# Altium schematic symbol library OOLITEV8_0_2-DEV-V1_1_17_Library.SchLib: 269 symbols (part 1 of 12)
Pins are listed as number, name and electrical type; pins without a type are passive.

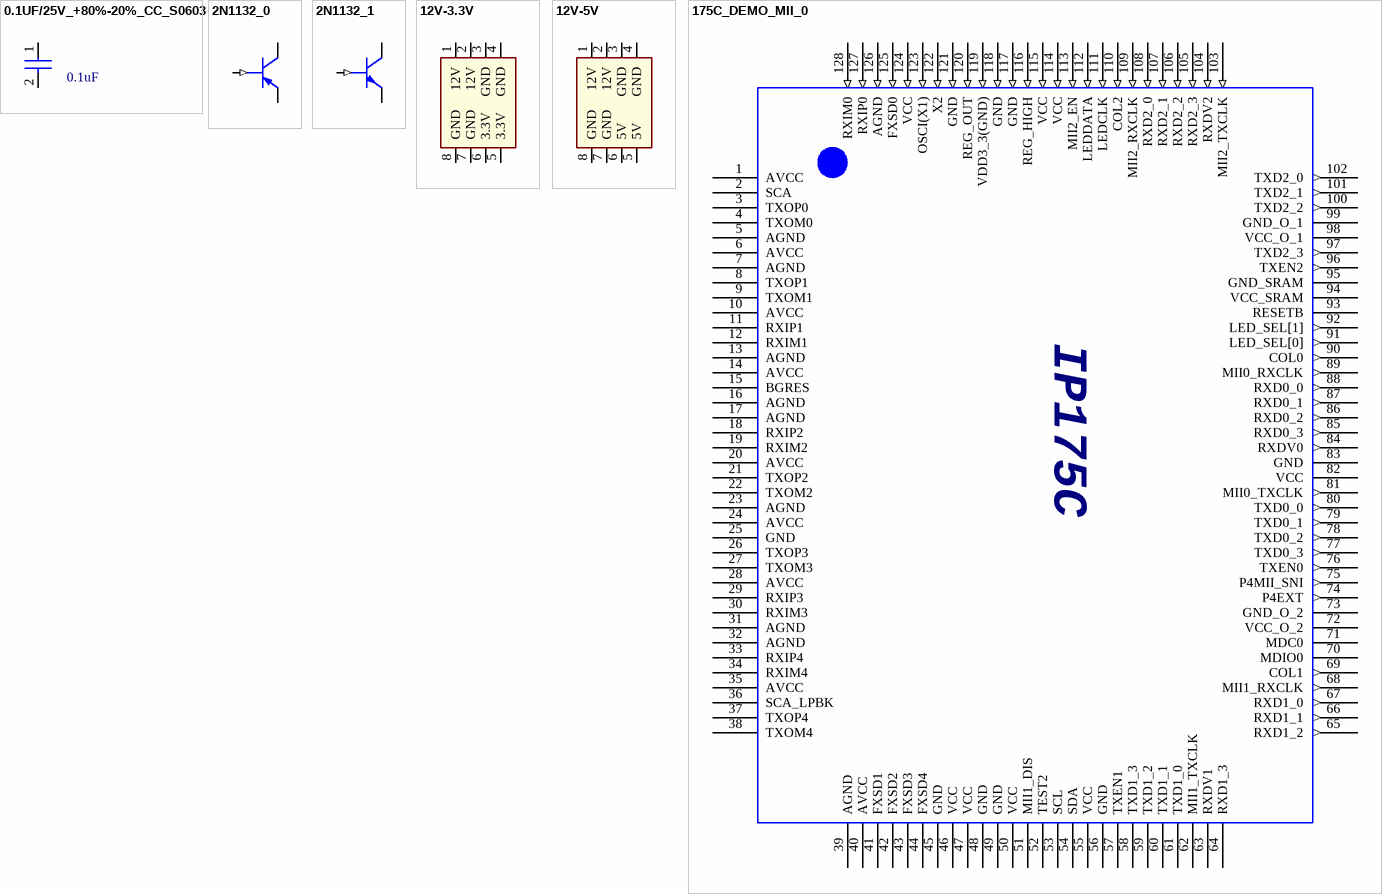
[diagram p0: symbols 0.1UF/25V_+80%-20%_CC_S0603 to 175C_DEMO_MII_0]

## 0.1UF/25V_+80%-20%_CC_S0603
designator C?, comment 0.1uF
PCB Footprint: C0603; V1: 25V +80% -20%; P/N: 26-400-311104; Package: C0603
footprint C0603
pins: 1, 2

## 2N1132_0
designator Q?
pins: 1 BASE (in), 2 EMITTER, 3 COLLECTOR

## 2N1132_1
designator Q?
pins: 1 BASE (in), 2 EMITTER, 3 COLLECTOR

## 12V-3.3V
designator U?
pins: 1 12V, 2 12V, 3 GND, 4 GND, 5 3.3V, 6 3.3V, 7 GND, 8 GND

## 12V-5V
designator U?
pins: 1 12V, 2 12V, 3 GND, 4 GND, 5 5V, 6 5V, 7 GND, 8 GND

## 175C_DEMO_MII_0
designator U?, comment 175C MII DEMO  (value not drawn)
pins: 1 AVCC, 2 SCA, 3 TXOP0, 4 TXOM0, 5 AGND, 6 AVCC, 7 AGND, 8 TXOP1, 9 TXOM1, 10 AVCC, 11 RXIP1, 12 RXIM1, 13 AGND, 14 AVCC, 15 BGRES, 16 AGND, 17 AGND, 18 RXIP2, 19 RXIM2, 20 AVCC, 21 TXOP2, 22 TXOM2, 23 AGND, 24 AVCC, 25 GND, 26 TXOP3, 27 TXOM3, 28 AVCC, 29 RXIP3, 30 RXIM3, 31 AGND, 32 AGND, 33 RXIP4, 34 RXIM4, 35 AVCC, 36 SCA_LPBK, 37 TXOP4, 38 TXOM4, 39 AGND, 40 AVCC, 41 FXSD1, 42 FXSD2, 43 FXSD3, 44 FXSD4, 45 GND, 46 VCC, 47 VCC, 48 GND, 49 GND, 50 VCC, 51 MII1_DIS, 52 TEST2, 53 SCL, 54 SDA, 55 VCC, 56 GND, 57 TXEN1, 58 TXD1_3, 59 TXD1_2, 60 TXD1_1, 61 TXD1_0, 62 MII1_TXCLK, 63 RXDV1, 64 RXD1_3, 65 RXD1_2 (out), 66 RXD1_1 (out), 67 RXD1_0 (out), 68 MII1_RXCLK (out), 69 COL1 (out), 70 MDIO0, 71 MDC0, 72 VCC_O_2 (power), 73 GND_O_2, 74 P4EXT (out), 75 P4MII_SNI (out), 76 TXEN0 (out), 77 TXD0_3 (out), 78 TXD0_2 (out), 79 TXD0_1 (out), 80 TXD0_0 (out), 81 MII0_TXCLK (out), 82 VCC, 83 GND (power), 84 RXDV0 (out), 85 RXD0_3 (out), 86 RXD0_2 (out), 87 RXD0_1 (out), 88 RXD0_0 (out), 89 MII0_RXCLK (out), 90 COL0 (out), 91 LED_SEL[0] (out), 92 LED_SEL[1] (out), 93 RESETB, 94 VCC_SRAM, 95 GND_SRAM, 96 TXEN2 (out), 97 TXD2_3 (out), 98 VCC_O_1 (power), 99 GND_O_1, 100 TXD2_2 (out), 101 TXD2_1 (out), 102 TXD2_0 (out), 103 MII2_TXCLK (in), 104 RXDV2 (in), 105 RXD2_3 (in), 106 RXD2_2 (in), 107 RXD2_1 (in), 108 RXD2_0 (in), 109 MII2_RXCLK (in), 110 COL2 (in), 111 LEDCLK (in), 112 LEDDATA (in), 113 MII2_EN (in), 114 VCC (in), 115 VCC (in), 116 REG_HIGH (in), 117 GND (in), 118 GND (in), 119 VDD3_3(GND) (in), 120 REG_OUT (in), 121 GND (in), 122 X2 (in), 123 OSCI(X1) (in), 124 VCC (in), 125 FXSD0 (in), 126 AGND (in), 127 RXIP0 (in), 128 RXIM0 (in)
text: IP175C

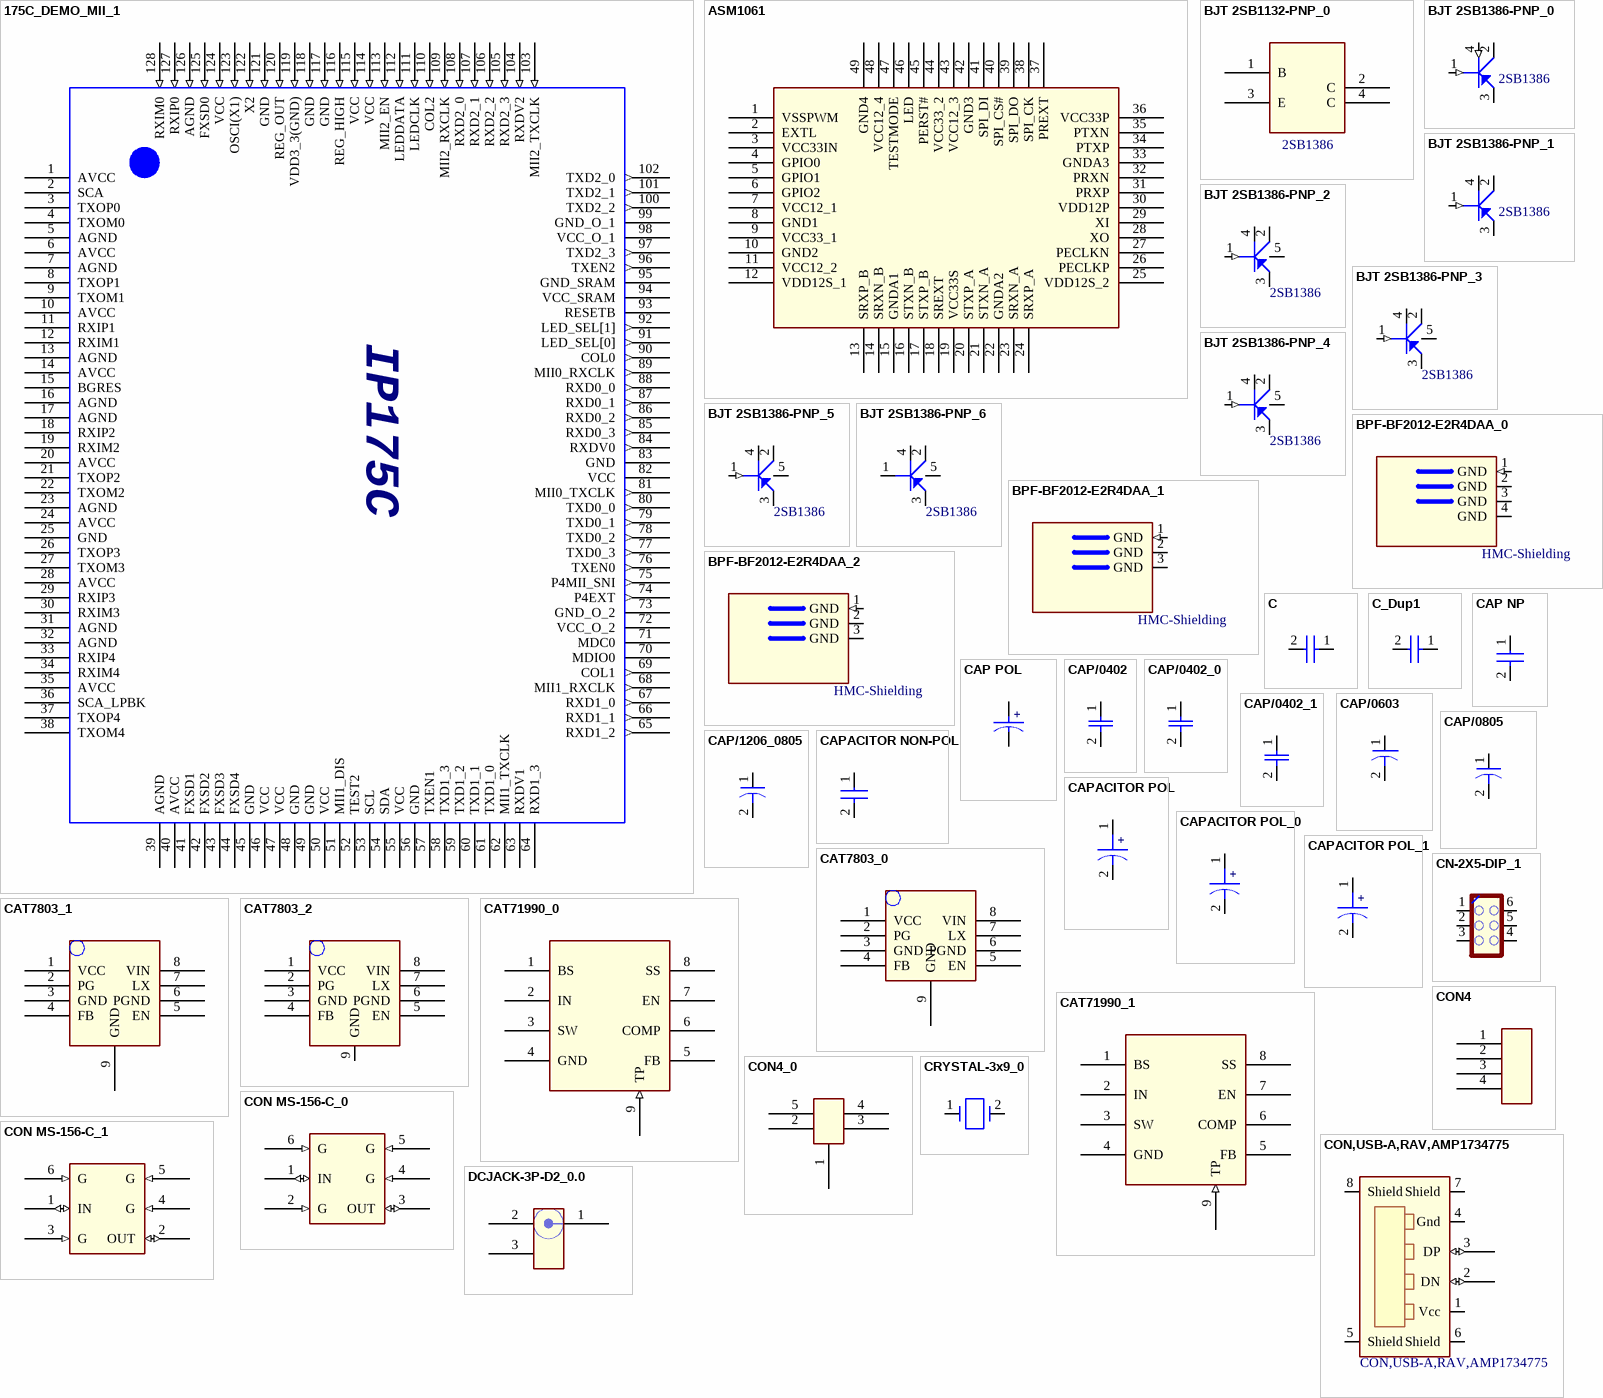
[diagram p1: symbols 175C_DEMO_MII_1 to DCJACK-3P-D2_0.0]

## 175C_DEMO_MII_1
designator U?, comment 175C MII DEMO  (value not drawn)
pins: 1 AVCC, 2 SCA, 3 TXOP0, 4 TXOM0, 5 AGND, 6 AVCC, 7 AGND, 8 TXOP1, 9 TXOM1, 10 AVCC, 11 RXIP1, 12 RXIM1, 13 AGND, 14 AVCC, 15 BGRES, 16 AGND, 17 AGND, 18 RXIP2, 19 RXIM2, 20 AVCC, 21 TXOP2, 22 TXOM2, 23 AGND, 24 AVCC, 25 GND, 26 TXOP3, 27 TXOM3, 28 AVCC, 29 RXIP3, 30 RXIM3, 31 AGND, 32 AGND, 33 RXIP4, 34 RXIM4, 35 AVCC, 36 SCA_LPBK, 37 TXOP4, 38 TXOM4, 39 AGND, 40 AVCC, 41 FXSD1, 42 FXSD2, 43 FXSD3, 44 FXSD4, 45 GND, 46 VCC, 47 VCC, 48 GND, 49 GND, 50 VCC, 51 MII1_DIS, 52 TEST2, 53 SCL, 54 SDA, 55 VCC, 56 GND, 57 TXEN1, 58 TXD1_3, 59 TXD1_2, 60 TXD1_1, 61 TXD1_0, 62 MII1_TXCLK, 63 RXDV1, 64 RXD1_3, 65 RXD1_2 (out), 66 RXD1_1 (out), 67 RXD1_0 (out), 68 MII1_RXCLK (out), 69 COL1 (out), 70 MDIO0, 71 MDC0, 72 VCC_O_2 (power), 73 GND_O_2, 74 P4EXT (out), 75 P4MII_SNI (out), 76 TXEN0 (out), 77 TXD0_3 (out), 78 TXD0_2 (out), 79 TXD0_1 (out), 80 TXD0_0 (out), 81 MII0_TXCLK (out), 82 VCC, 83 GND (power), 84 RXDV0 (out), 85 RXD0_3 (out), 86 RXD0_2 (out), 87 RXD0_1 (out), 88 RXD0_0 (out), 89 MII0_RXCLK (out), 90 COL0 (out), 91 LED_SEL[0] (out), 92 LED_SEL[1] (out), 93 RESETB, 94 VCC_SRAM, 95 GND_SRAM, 96 TXEN2 (out), 97 TXD2_3 (out), 98 VCC_O_1 (power), 99 GND_O_1, 100 TXD2_2 (out), 101 TXD2_1 (out), 102 TXD2_0 (out), 103 MII2_TXCLK (in), 104 RXDV2 (in), 105 RXD2_3 (in), 106 RXD2_2 (in), 107 RXD2_1 (in), 108 RXD2_0 (in), 109 MII2_RXCLK (in), 110 COL2 (in), 111 LEDCLK (in), 112 LEDDATA (in), 113 MII2_EN (in), 114 VCC (in), 115 VCC (in), 116 REG_HIGH (in), 117 GND (in), 118 GND (in), 119 VDD3_3(GND) (in), 120 REG_OUT (in), 121 GND (in), 122 X2 (in), 123 OSCI(X1) (in), 124 VCC (in), 125 FXSD0 (in), 126 AGND (in), 127 RXIP0 (in), 128 RXIM0 (in)
text: IP175C

## ASM1061
designator U?
pins: 1 VSSPWM, 2 EXTL, 3 VCC33IN, 4 GPIO0, 5 GPIO1, 6 GPIO2, 7 VCC12_1, 8 GND1, 9 VCC33_1, 10 GND2, 11 VCC12_2, 12 VDD12S_1, 13 SRXP_B, 14 SRXN_B, 15 GNDA1, 16 STXN_B, 17 STXP_B, 18 SREXT, 19 VCC33S, 20 STXP_A, 21 STXN_A, 22 GNDA2, 23 SRXN_A, 24 SRXP_A, 25 VDD12S_2, 26 PECLKP, 27 PECLKN, 28 XO, 29 XI, 30 VDD12P, 31 PRXP, 32 PRXN, 33 GNDA3, 34 PTXP, 35 PTXN, 36 VCC33P, 37 PREXT, 38 SPI_CK, 39 SPI_DO, 40 SPI_CS#, 41 SPI_DI, 42 GND3, 43 VCC12_3, 44 VCC33_2, 45 PERST#, 46 LED, 47 TESTMODE, 48 VCC12_4, 49 GND4

## BJT 2SB1132-PNP_0
designator U?, comment 2SB1386
pins: 1 B, 2 C, 3 E, 4 C

## BJT 2SB1386-PNP_0
designator Q?, comment 2SB1386
footprint SOT-89
pins: 1 BASE (in), 2 COLLECTOR (io), 3 EMITTER (io), 4 COLLECTOR (in)

## BJT 2SB1386-PNP_1
designator Q?, comment 2SB1386
footprint SOT-89
pins: 1 BASE (in), 2 COLLECTOR (io), 3 EMITTER (io), 4 COLLECTOR (io)

## BJT 2SB1386-PNP_2
designator Q?, comment 2SB1386
footprint SOT-89
pins: 1 BASE (in), 2 COLLECTOR (io), 3 EMITTER (io), 4 COLLECTOR (io), 5 COLLECTOR (io)

## BJT 2SB1386-PNP_3
designator Q?, comment 2SB1386
footprint SOT-89
pins: 1 BASE (in), 2 COLLECTOR (power), 3 EMITTER (io), 4 COLLECTOR, 5 COLLECTOR

## BJT 2SB1386-PNP_4
designator Q?, comment 2SB1386
footprint SOT-89
pins: 1 BASE (in), 2 COLLECTOR (power), 3 EMITTER, 4 COLLECTOR, 5 COLLECTOR

## BJT 2SB1386-PNP_5
designator Q?, comment 2SB1386
footprint SOT-89
pins: 1 BASE (in), 2 COLLECTOR, 3 EMITTER, 4 COLLECTOR, 5 COLLECTOR

## BJT 2SB1386-PNP_6
designator Q?, comment 2SB1386
footprint SOT-89
pins: 1 BASE, 2 COLLECTOR, 3 EMITTER, 4 COLLECTOR, 5 COLLECTOR

## BPF-BF2012-E2R4DAA_0
designator U?, comment HMC-Shielding
footprint BPF2012
pins: 1 GND (in), 2 GND, 3 GND, 4 GND

## BPF-BF2012-E2R4DAA_1
designator U?, comment HMC-Shielding
footprint BPF2012
pins: 1 GND (in), 2 GND, 3 GND

## BPF-BF2012-E2R4DAA_2
designator U?, comment HMC-Shielding
footprint BPF2012
pins: 1 GND (in), 2 GND, 3 GND

## C
designator C?
pins: 1, 2

## C_Dup1
designator C?
pins: 1, 2

## CAP NP
designator C?
pins: 1, 2

## CAP POL
designator C?
pins: 1, 2
text: +

## CAP/0402
designator C?
footprint 0402
pins: 1, 2

## CAP/0402_0
designator C?
footprint 0402
pins: 1, 2

## CAP/0402_1
designator C?
footprint 0402
pins: 1, 2

## CAP/0603
designator C?
footprint 0603
pins: 1, 2

## CAP/0805
designator C?
footprint 0805
pins: 1, 2

## CAP/1206_0805
designator C?
footprint 1206/0805
pins: 1, 2

## CAPACITOR NON-POL
designator C?
pins: 1, 2

## CAPACITOR POL
designator C?
pins: 1, 2
text: +

## CAPACITOR POL_0
designator C?
footprint CAP-1106-DIP
pins: 1, 2
text: +

## CAPACITOR POL_1
designator C?
footprint CAP-1106-DIP
pins: 1, 2
text: +

## CAT7803_0
designator U?
footprint SOP8-EP
pins: 1 VCC, 2 PG, 3 GND, 4 FB, 5 EN, 6 PGND, 7 LX, 8 VIN, 9 GND

## CAT7803_1
designator U?
footprint SOP8-EP
pins: 1 VCC, 2 PG, 3 GND, 4 FB, 5 EN, 6 PGND, 7 LX, 8 VIN, 9 GND

## CAT7803_2
designator U?
footprint SOP8-EP
pins: 1 VCC, 2 PG, 3 GND, 4 FB, 5 EN, 6 PGND, 7 LX, 8 VIN, 9 GND

## CAT71990_0
designator U?
footprint SOP8
pins: 1 BS, 2 IN, 3 SW, 4 GND, 5 FB, 6 COMP, 7 EN, 8 SS, 9 TP (in)

## CAT71990_1
designator U?
footprint SOP8
pins: 1 BS, 2 IN, 3 SW, 4 GND, 5 FB, 6 COMP, 7 EN, 8 SS, 9 TP (in)

## CN-2X5-DIP_1
designator J?
pins: 1, 2 3, 3 5, 4 6, 5 4, 6 2

## CON4
designator J?
pins: 1, 2, 3, 4

## CON4_0
designator J?
pins: 1, 2, 3, 4, 5

## CON MS-156-C_0
designator U?
footprint MS-156-C
pins: 1 IN (io), 2 G (in), 3 OUT (io), 4 G (in), 5 G (in), 6 G (in)

## CON MS-156-C_1
designator U?
footprint MS-156-C
pins: 1 IN (io), 2 OUT (io), 3 G (in), 4 G (in), 5 G (in), 6 G (in)

## CON,USB-A,RAV,AMP1734775
designator J?
footprint CON/USB-A/RAV/AMP1734775
pins: 1 Vcc (power), 2 DN (io), 3 DP (io), 4 Gnd (power), 5 Shield (power), 6 Shield (power), 7 Shield (power), 8 Shield (power)

## CRYSTAL-3x9_0
designator Y?
footprint XTAL-DIP-3X9
pins: 1, 2

## DCJACK-3P-D2_0.0
designator J?
pins: 1, 2, 3

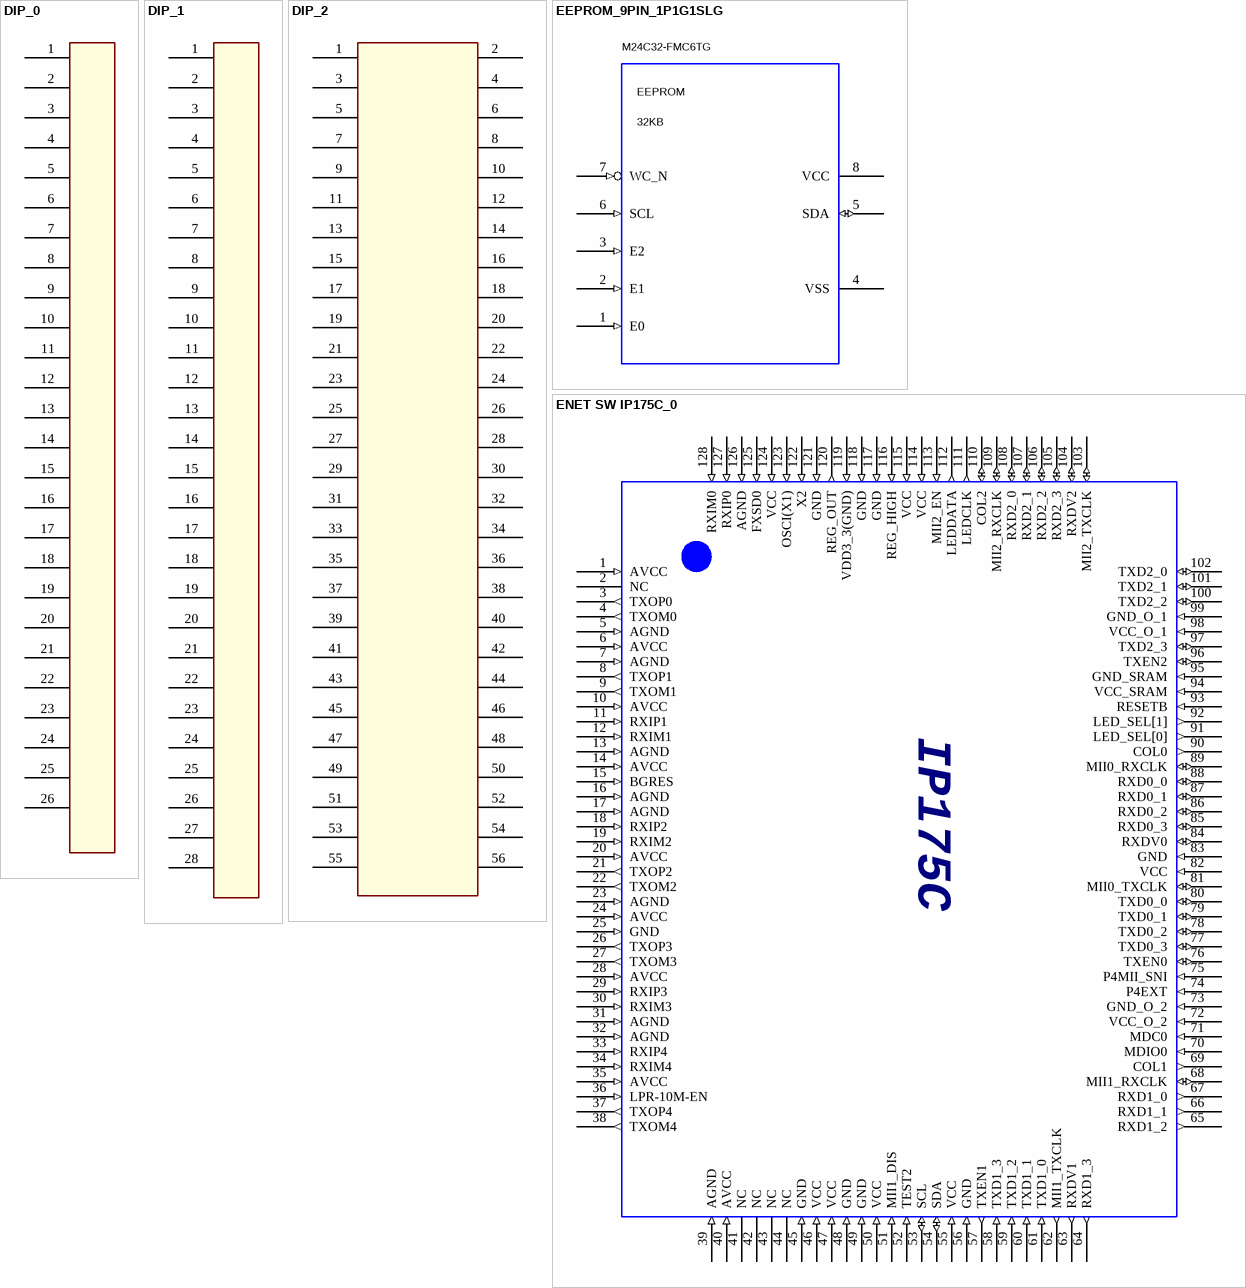
[diagram p2: symbols DIP_0 to ENET SW IP175C_0]

## DIP_0
designator J?
footprint DIP_20P
pins: 1, 2, 3, 4, 5, 6, 7, 8, 9, 10, 11, 12, 13, 14, 15, 16, 17, 18, 19, 20, 21, 22, 23, 24, 25, 26

## DIP_1
designator J?
footprint DIP_20P
pins: 1, 2, 3, 4, 5, 6, 7, 8, 9, 10, 11, 12, 13, 14, 15, 16, 17, 18, 19, 20, 21, 22, 23, 24, 25, 26, 27, 28

## DIP_2
designator J?
footprint DIP_20P
pins: 1, 2, 3, 4, 5, 6, 7, 8, 9, 10, 11, 12, 13, 14, 15, 16, 17, 18, 19, 20, 21, 22, 23, 24, 25, 26, 27, 28, 29, 30, 31, 32, 33, 34, 35, 36, 37, 38, 39, 40, 41, 42, 43, 44, 45, 46, 47, 48, 49, 50, 51, 52, 53, 54, 55, 56

## EEPROM_9PIN_1P1G1SLG
designator U?, comment BLOCKID1: 32KB  BLOCKID: EEPROM  (hidden comment: M24C32-FMC6TG)
PART_NUMBER: MCN_NO; SYMNAME: EEPROM_9PIN_1P1G1SLG_V1; PART_ID: M24C32-FMC6TG
pins: 1 E0 (in), 2 E1 (in), 3 E2 (in), 4 VSS (power), 5 SDA (io), 6 SCL (in), 7 WC_N (in), 8 VCC (power)

## ENET SW IP175C_0
designator U?, comment IP175C  (value not drawn)
footprint P128QFP
pins: 1 AVCC (in), 2 NC, 3 TXOP0 (out), 4 TXOM0 (out), 5 AGND (in), 6 AVCC (in), 7 AGND (in), 8 TXOP1 (out), 9 TXOM1 (out), 10 AVCC (in), 11 RXIP1 (in), 12 RXIM1 (in), 13 AGND (in), 14 AVCC (in), 15 BGRES (in), 16 AGND (in), 17 AGND (in), 18 RXIP2 (in), 19 RXIM2 (in), 20 AVCC (in), 21 TXOP2 (out), 22 TXOM2 (out), 23 AGND (in), 24 AVCC (in), 25 GND (in), 26 TXOP3 (out), 27 TXOM3 (out), 28 AVCC (in), 29 RXIP3 (in), 30 RXIM3 (in), 31 AGND (in), 32 AGND (in), 33 RXIP4 (in), 34 RXIM4 (in), 35 AVCC (in), 36 LPR-10M-EN (in), 37 TXOP4 (out), 38 TXOM4 (out), 39 AGND (in), 40 AVCC (in), 41 NC, 42 NC, 43 NC, 44 NC, 45 GND (in), 46 VCC (in), 47 VCC (in), 48 GND (in), 49 GND (in), 50 VCC (in), 51 MII1_DIS (in), 52 TEST2 (in), 53 SCL (io), 54 SDA (io), 55 VCC (in), 56 GND (in), 57 TXEN1 (out), 58 TXD1_3 (in), 59 TXD1_2 (in), 60 TXD1_1 (in), 61 TXD1_0 (in), 62 MII1_TXCLK (out), 63 RXDV1 (out), 64 RXD1_3 (out), 65 RXD1_2 (out), 66 RXD1_1 (out), 67 RXD1_0 (out), 68 MII1_RXCLK (io), 69 COL1 (out), 70 MDIO0 (in), 71 MDC0 (in), 72 VCC_O_2 (in), 73 GND_O_2 (in), 74 P4EXT (in), 75 P4MII_SNI (in), 76 TXEN0 (io), 77 TXD0_3 (io), 78 TXD0_2 (io), 79 TXD0_1 (io), 80 TXD0_0 (io), 81 MII0_TXCLK (io), 82 VCC (in), 83 GND (in), 84 RXDV0 (io), 85 RXD0_3 (io), 86 RXD0_2 (io), 87 RXD0_1 (io), 88 RXD0_0 (io), 89 MII0_RXCLK (io), 90 COL0 (out), 91 LED_SEL[0] (out), 92 LED_SEL[1] (out), 93 RESETB (in), 94 VCC_SRAM (in), 95 GND_SRAM (in), 96 TXEN2 (io), 97 TXD2_3 (io), 98 VCC_O_1 (in), 99 GND_O_1 (in), 100 TXD2_2 (io), 101 TXD2_1 (io), 102 TXD2_0 (io), 103 MII2_TXCLK (io), 104 RXDV2 (io), 105 RXD2_3 (io), 106 RXD2_2 (io), 107 RXD2_1 (io), 108 RXD2_0 (io), 109 MII2_RXCLK (io), 110 COL2 (io), 111 LEDCLK (out), 112 LEDDATA (out), 113 MII2_EN (in), 114 VCC (in), 115 VCC (in), 116 REG_HIGH (in), 117 GND (in), 118 GND (in), 119 VDD3_3(GND) (in), 120 REG_OUT (out), 121 GND (in), 122 X2 (in), 123 OSCI(X1) (in), 124 VCC (in), 125 FXSD0 (in), 126 AGND (in), 127 RXIP0 (in), 128 RXIM0 (in)

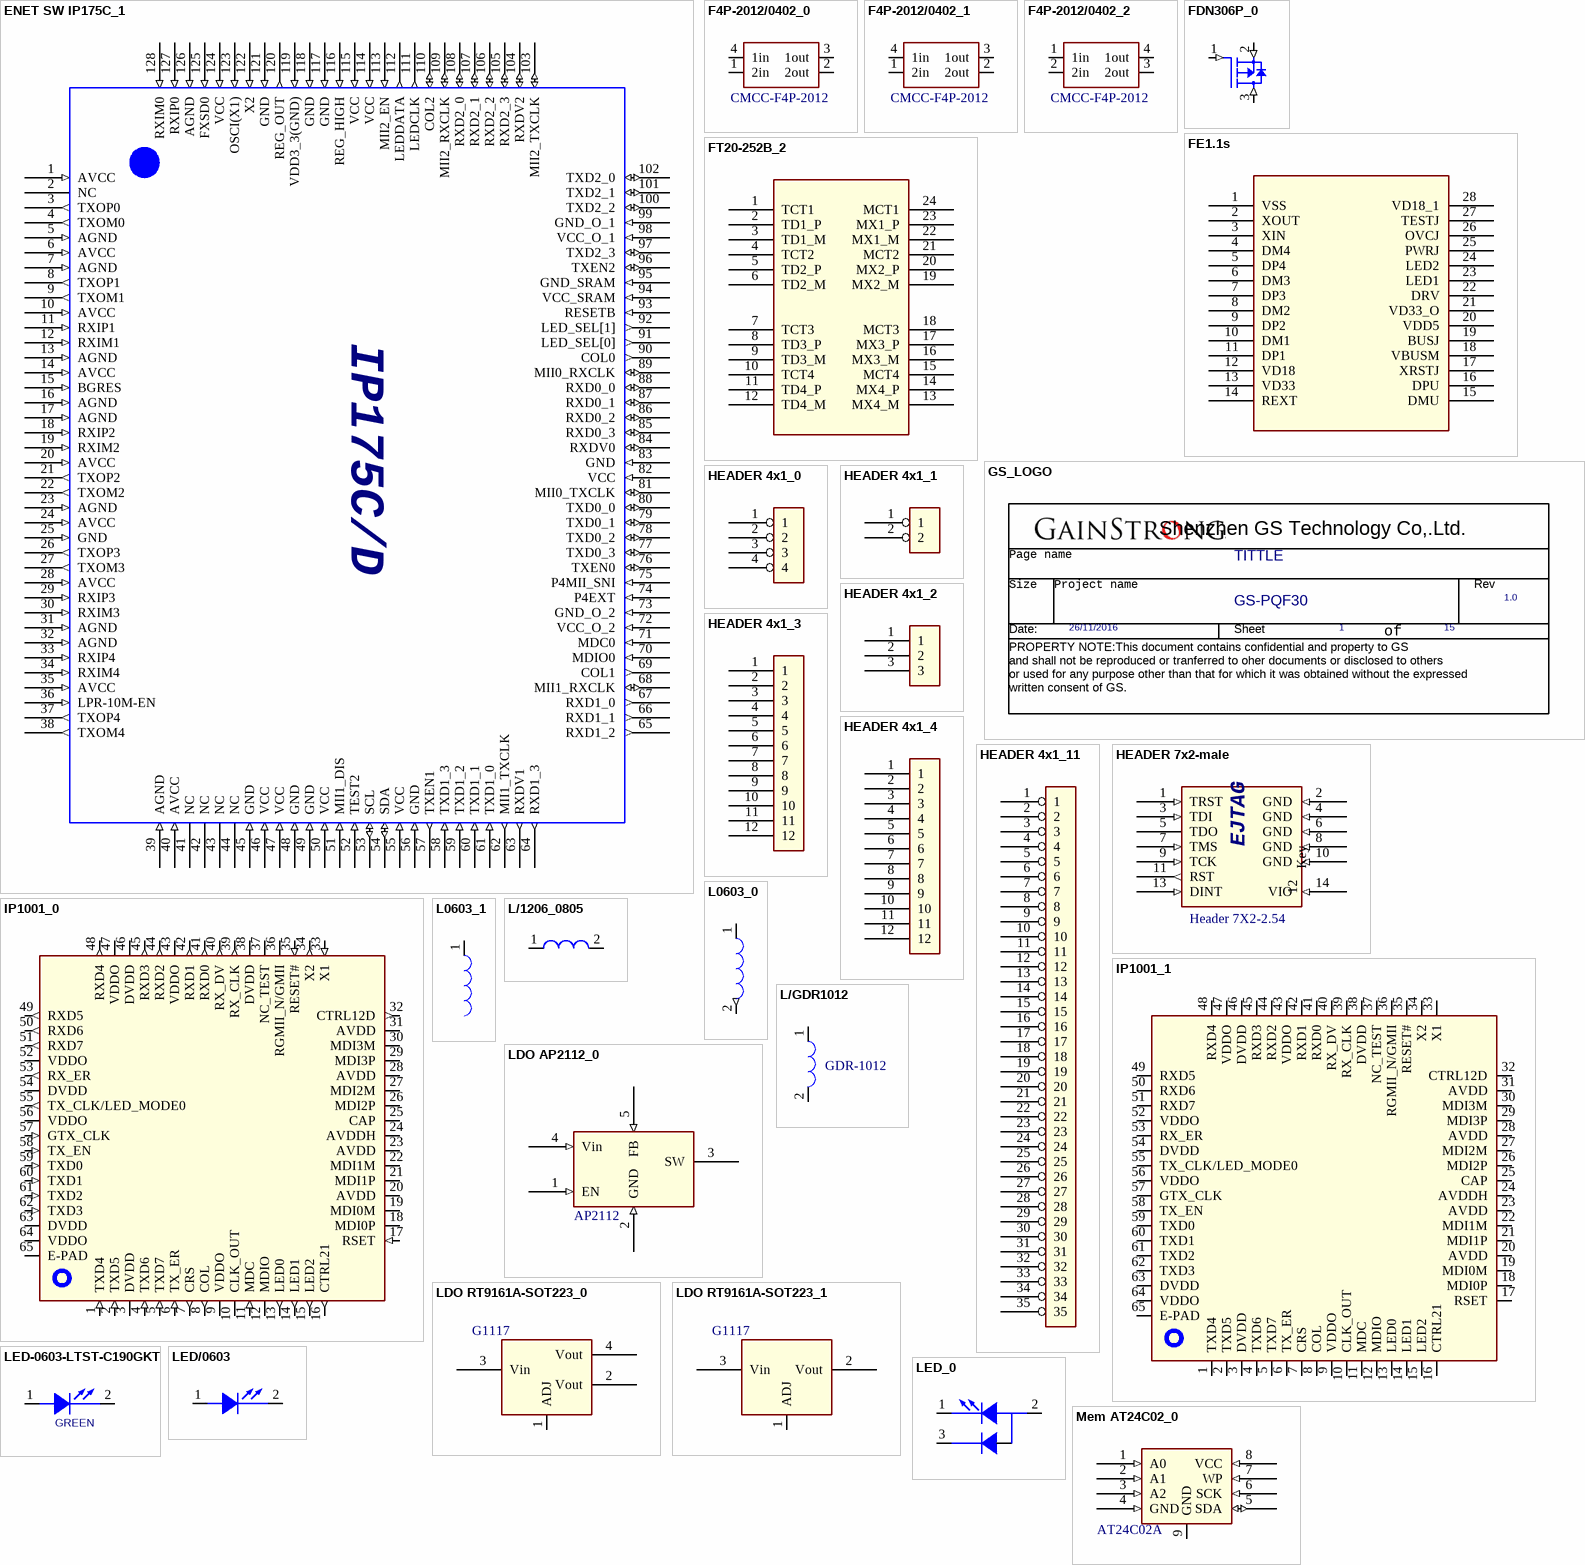
[diagram p3: symbols ENET SW IP175C_1 to Mem AT24C02_0]

## ENET SW IP175C_1
designator U?, comment IP175C  (value not drawn)
footprint P128QFP
pins: 1 AVCC (in), 2 NC, 3 TXOP0 (out), 4 TXOM0 (out), 5 AGND (in), 6 AVCC (in), 7 AGND (in), 8 TXOP1 (out), 9 TXOM1 (out), 10 AVCC (in), 11 RXIP1 (in), 12 RXIM1 (in), 13 AGND (in), 14 AVCC (in), 15 BGRES (in), 16 AGND (in), 17 AGND (in), 18 RXIP2 (in), 19 RXIM2 (in), 20 AVCC (in), 21 TXOP2 (out), 22 TXOM2 (out), 23 AGND (in), 24 AVCC (in), 25 GND (in), 26 TXOP3 (out), 27 TXOM3 (out), 28 AVCC (in), 29 RXIP3 (in), 30 RXIM3 (in), 31 AGND (in), 32 AGND (in), 33 RXIP4 (in), 34 RXIM4 (in), 35 AVCC (in), 36 LPR-10M-EN (in), 37 TXOP4 (out), 38 TXOM4 (out), 39 AGND (in), 40 AVCC (in), 41 NC, 42 NC, 43 NC, 44 NC, 45 GND (in), 46 VCC (in), 47 VCC (in), 48 GND (in), 49 GND (in), 50 VCC (in), 51 MII1_DIS (in), 52 TEST2 (in), 53 SCL (io), 54 SDA (io), 55 VCC (in), 56 GND (in), 57 TXEN1 (out), 58 TXD1_3 (in), 59 TXD1_2 (in), 60 TXD1_1 (in), 61 TXD1_0 (in), 62 MII1_TXCLK (out), 63 RXDV1 (out), 64 RXD1_3 (out), 65 RXD1_2 (out), 66 RXD1_1 (out), 67 RXD1_0 (out), 68 MII1_RXCLK (io), 69 COL1 (out), 70 MDIO0 (in), 71 MDC0 (in), 72 VCC_O_2 (in), 73 GND_O_2 (in), 74 P4EXT (in), 75 P4MII_SNI (in), 76 TXEN0 (io), 77 TXD0_3 (io), 78 TXD0_2 (io), 79 TXD0_1 (io), 80 TXD0_0 (io), 81 MII0_TXCLK (io), 82 VCC (in), 83 GND (in), 84 RXDV0 (io), 85 RXD0_3 (io), 86 RXD0_2 (io), 87 RXD0_1 (io), 88 RXD0_0 (io), 89 MII0_RXCLK (io), 90 COL0 (out), 91 LED_SEL[0] (out), 92 LED_SEL[1] (out), 93 RESETB (in), 94 VCC_SRAM (in), 95 GND_SRAM (in), 96 TXEN2 (io), 97 TXD2_3 (io), 98 VCC_O_1 (in), 99 GND_O_1 (in), 100 TXD2_2 (io), 101 TXD2_1 (io), 102 TXD2_0 (io), 103 MII2_TXCLK (io), 104 RXDV2 (io), 105 RXD2_3 (io), 106 RXD2_2 (io), 107 RXD2_1 (io), 108 RXD2_0 (io), 109 MII2_RXCLK (io), 110 COL2 (io), 111 LEDCLK (out), 112 LEDDATA (out), 113 MII2_EN (in), 114 VCC (in), 115 VCC (in), 116 REG_HIGH (in), 117 GND (in), 118 GND (in), 119 VDD3_3(GND) (in), 120 REG_OUT (out), 121 GND (in), 122 X2 (in), 123 OSCI(X1) (in), 124 VCC (in), 125 FXSD0 (in), 126 AGND (in), 127 RXIP0 (in), 128 RXIM0 (in)
text: IP175C/D

## F4P-2012/0402_0
designator U?, comment CMCC-F4P-2012
footprint F4P-2012/0402
pins: 1 2in (io), 2 2out (io), 3 1out (io), 4 1in (io)

## F4P-2012/0402_1
designator U?, comment CMCC-F4P-2012
footprint F4P-2012/0402
pins: 1 2in (io), 2 2out (io), 3 1out (io), 4 1in (io)

## F4P-2012/0402_2
designator U?, comment CMCC-F4P-2012
footprint F4P-2012/0402
pins: 1 1in (io), 2 2in (io), 3 2out (io), 4 1out (io)

## FDN306P_0
designator Q?
pins: 1 GATE (in), 2 SOURCE (in), 3 DRAIN (in)

## FE1.1s
designator U?
footprint SSOP-28
pins: 1 VSS, 2 XOUT, 3 XIN, 4 DM4, 5 DP4, 6 DM3, 7 DP3, 8 DM2, 9 DP2, 10 DM1, 11 DP1, 12 VD18, 13 VD33, 14 REXT, 15 DMU, 16 DPU, 17 XRSTJ, 18 VBUSM, 19 BUSJ, 20 VDD5, 21 VD33_O, 22 DRV, 23 LED1, 24 LED2, 25 PWRJ, 26 OVCJ, 27 TESTJ, 28 VD18_1

## FT20-252B_2
designator T?  (value not drawn)
pins: 1 TCT1, 2 TD1_P, 3 TD1_M, 4 TCT2, 5 TD2_P, 6 TD2_M, 7 TCT3, 8 TD3_P, 9 TD3_M, 10 TCT4, 11 TD4_P, 12 TD4_M, 13 MX4_M, 14 MX4_P, 15 MCT4, 16 MX3_M, 17 MX3_P, 18 MCT3, 19 MX2_M, 20 MX2_P, 21 MCT2, 22 MX1_M, 23 MX1_P, 24 MCT1

## GS_LOGO
designator *  Page Number: 1  Page Count: 15  Page Modify Date: 26/11/2016  Doc: GS-PQF30  RevCode: 1.0  Title: TITTLE  (hidden comment: *)  (graphical)
text: Shenzhen GS Technology Co,.Ltd.; Page name; Size; Project name; Rev; Date:; PROPERTY NOTE:This document contains confidential and property to GS / and shall not be reproduced or tranferred to oher documents or disclosed to others / or used for any purpose other than that for which it was obtained without the expressed / written consent of GS.; Sheet; of

## HEADER 4x1_0
designator J?
footprint P4x1-2.54mm
pins: 1, 2, 3, 4

## HEADER 4x1_1
designator J?
footprint P4x1-2.54mm
pins: 1, 2

## HEADER 4x1_2
designator J?
footprint P4x1-2.54mm
pins: 1, 2, 3

## HEADER 4x1_3
designator J?
footprint P4x1-2.54mm
pins: 1, 2, 3, 4, 5, 6, 7, 8, 9, 10, 11, 12

## HEADER 4x1_4
designator J?
footprint P4x1-2.54mm
pins: 1, 2, 3, 4, 5, 6, 7, 8, 9, 10, 11, 12

## HEADER 4x1_11
designator J?
footprint P4x1-2.54mm
pins: 1, 2, 3, 4, 5, 6, 7, 8, 9, 10, 11, 12, 13, 14, 15, 16, 17, 18, 19, 20, 21, 22, 23, 24, 25, 26, 27, 28, 29, 30, 31, 32, 33, 34, 35

## HEADER 7x2-male
designator J?, comment Header 7X2-2.54
footprint P7x2-2.54mm
pins: 1 TRST (in), 2 GND (in), 3 TDI (in), 4 GND (in), 5 TDO (hiz), 6 GND (in), 7 TMS (in), 8 GND (in), 9 TCK (in), 10 GND (in), 11 RST (out), 12 Key, 13 DINT (in), 14 VIO (in)
text: EJTAG

## IP1001_0
designator U?
pins: 1 TXD4 (in), 2 TXD5 (in), 3 DVDD (power), 4 TXD6 (in), 5 TXD7 (in), 6 TX_ER (in), 7 CRS (out), 8 COL (out), 9 VDDO (power), 10 CLK_OUT (power), 11 MDC (in), 12 MDIO (io), 13 LED0 (out), 14 LED1 (out), 15 LED2 (out), 16 CTRL21 (out), 17 RSET (in), 18 MDI0P (io), 19 MDI0M (io), 20 AVDD (power), 21 MDI1P (io), 22 MDI1M (io), 23 AVDD (power), 24 AVDDH (power), 25 CAP, 26 MDI2P (io), 27 MDI2M (io), 28 AVDD (power), 29 MDI3P (io), 30 MDI3M (io), 31 AVDD (power), 32 CTRL12D (out), 33 X1 (in), 34 X2 (out), 35 RESET# (in), 36 RGMII_N/GMII, 37 NC_TEST, 38 DVDD (power), 39 RX_CLK (out), 40 RX_DV (out), 41 RXD0 (out), 42 RXD1 (out), 43 VDDO (power), 44 RXD2 (out), 45 RXD3 (out), 46 DVDD (power), 47 VDDO (power), 48 RXD4 (out), 49 RXD5 (out), 50 RXD6 (out), 51 RXD7 (out), 52 VDDO (power), 53 RX_ER (out), 54 DVDD (power), 55 TX_CLK/LED_MODE0 (out), 56 VDDO (power), 57 GTX_CLK (in), 58 TX_EN (in), 59 TXD0 (in), 60 TXD1 (in), 61 TXD2 (in), 62 TXD3 (in), 63 DVDD (power), 64 VDDO (power), 65 E-PAD

## IP1001_1
designator U?
pins: 1 TXD4, 2 TXD5, 3 DVDD, 4 TXD6, 5 TXD7, 6 TX_ER, 7 CRS, 8 COL, 9 VDDO, 10 CLK_OUT, 11 MDC, 12 MDIO, 13 LED0, 14 LED1, 15 LED2, 16 CTRL21, 17 RSET, 18 MDI0P, 19 MDI0M, 20 AVDD, 21 MDI1P, 22 MDI1M, 23 AVDD, 24 AVDDH, 25 CAP, 26 MDI2P, 27 MDI2M, 28 AVDD, 29 MDI3P, 30 MDI3M, 31 AVDD, 32 CTRL12D, 33 X1, 34 X2, 35 RESET#, 36 RGMII_N/GMII, 37 NC_TEST, 38 DVDD, 39 RX_CLK, 40 RX_DV, 41 RXD0, 42 RXD1, 43 VDDO, 44 RXD2, 45 RXD3, 46 DVDD, 47 VDDO, 48 RXD4, 49 RXD5, 50 RXD6, 51 RXD7, 52 VDDO, 53 RX_ER, 54 DVDD, 55 TX_CLK/LED_MODE0, 56 VDDO, 57 GTX_CLK, 58 TX_EN, 59 TXD0, 60 TXD1, 61 TXD2, 62 TXD3, 63 DVDD, 64 VDDO, 65 E-PAD

## L0603_0
designator L?
footprint L0603S
pins: 1, 2 (out)

## L0603_1
designator L?
footprint L0603S
pins: 1, 2 (power) hidden

## L/1206_0805
designator L?
footprint 1206/0805
pins: 1, 2

## L/GDR1012
designator L?, comment GDR-1012
footprint GDR-1012
pins: 1, 2

## LDO AP2112_0
designator U?, comment AP2112
footprint SOT-25
pins: 1 EN (in), 2 GND (in), 3 SW, 4 Vin (in), 5 FB (in)

## LDO RT9161A-SOT223_0
designator U?, comment G1117
footprint SOT-223
pins: 1 ADJ, 2 Vout, 3 Vin (power), 4 Vout (power)

## LDO RT9161A-SOT223_1
designator U?, comment G1117
footprint SOT-223
pins: 1 ADJ, 2 Vout, 3 Vin (power)

## LED-0603-LTST-C190GKT
designator DS?, comment LTST-C190GKT  (value not drawn)
ATHEROS KEY: 127-00001-000
footprint LED-0603
pins: 1 ANODE, 2 CATHODE
text: GREEN

## LED/0603
designator D?
footprint 0603
pins: 1 ANODE, 2 CATHODE

## LED_0
designator D?
pins: 1 ANODE, 2 GND, 3 CATHODE

## Mem AT24C02_0
designator U?, comment AT24C02A
footprint SOIC-8
pins: 1 A0 (in), 2 A1 (in), 3 A2 (in), 4 GND (in), 5 SDA (io), 6 SCK (in), 7 WP (in), 8 VCC (in), 9 GND

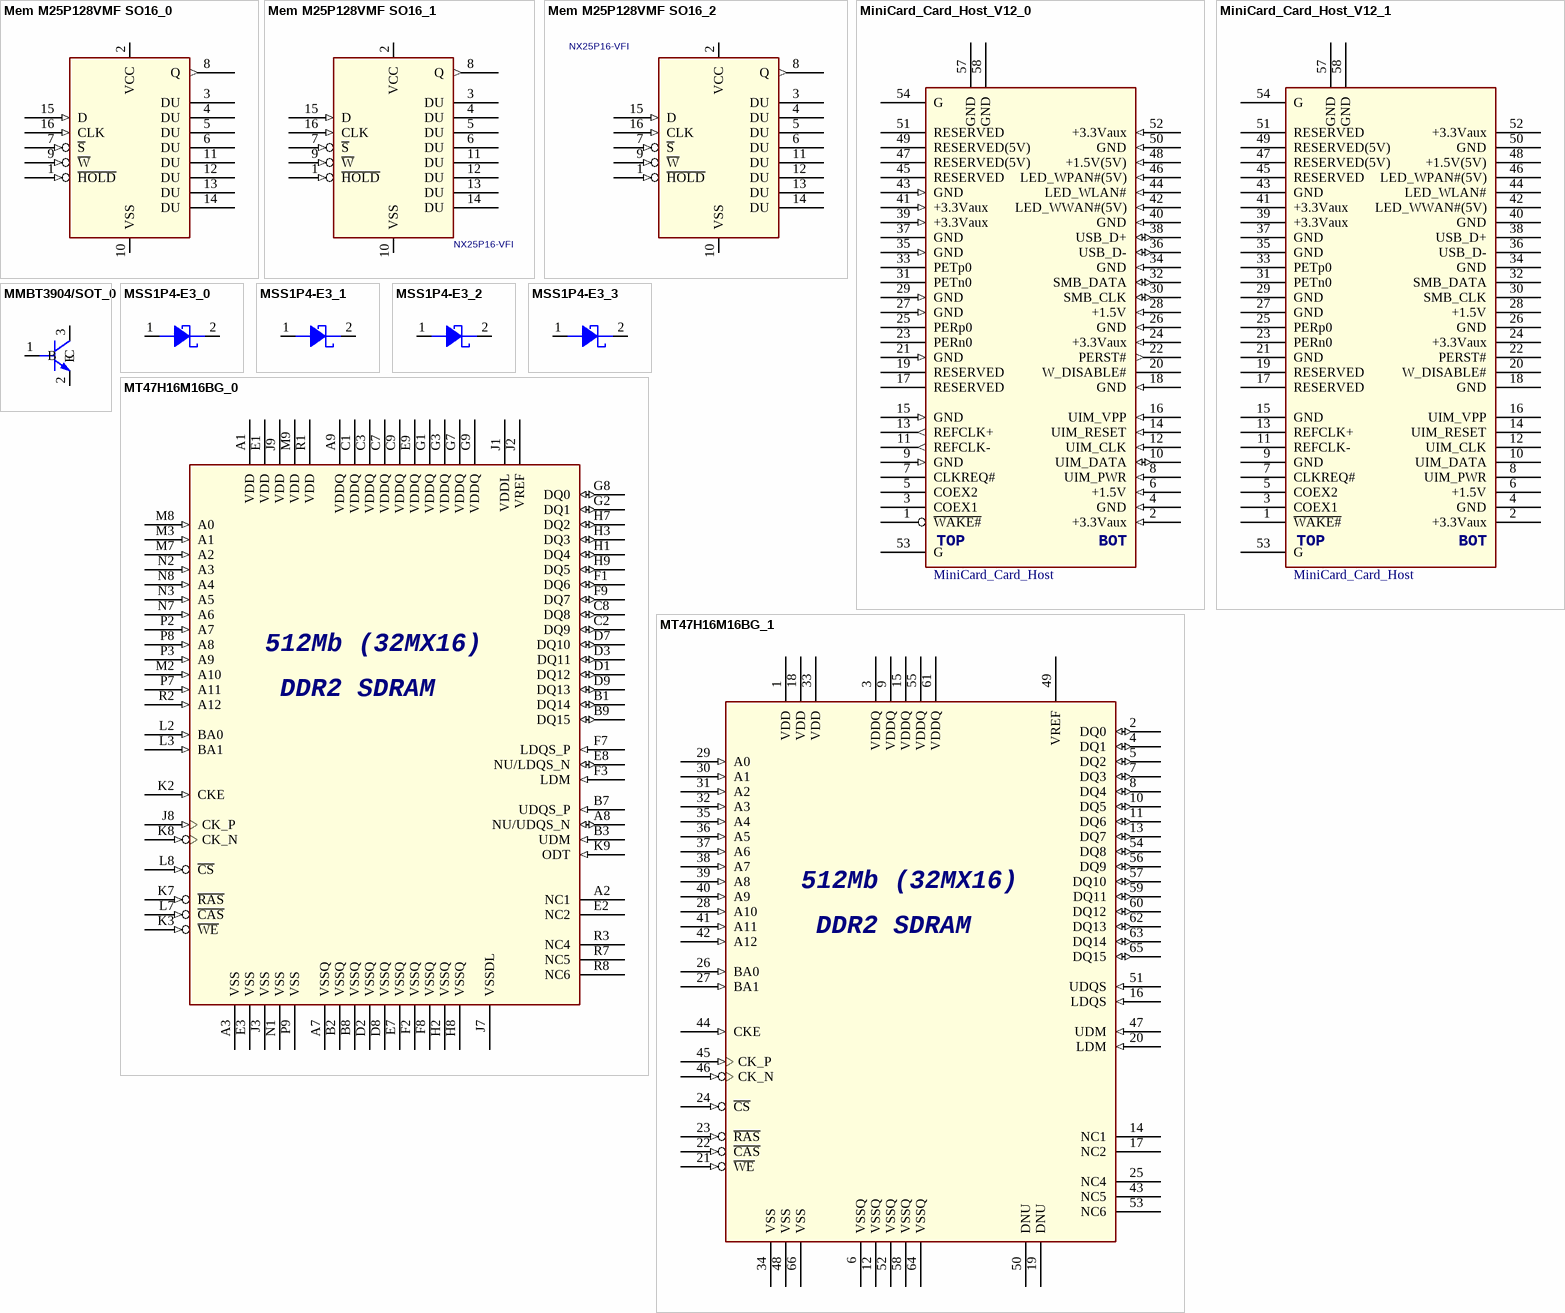
[diagram p4: symbols Mem M25P128VMF SO16_0 to MT47H16M16BG_1]

## Mem M25P128VMF SO16_0
designator U28?, comment NX25P16-VFI  (value not drawn)
ATHEROS KEY: 135-00033-000
footprint SO16
pins: 1 ~{HOLD} (in), 2 VCC (power), 3 DU, 4 DU, 5 DU, 6 DU, 7 ~{S} (in), 8 Q (out), 9 ~{W} (in), 10 VSS (power), 11 DU, 12 DU, 13 DU, 14 DU, 15 D (in), 16 CLK (in)

## Mem M25P128VMF SO16_1
designator U28?, comment NX25P16-VFI
ATHEROS KEY: 135-00033-000
footprint SO16
pins: 1 ~{HOLD} (in), 2 VCC (power), 3 DU, 4 DU, 5 DU, 6 DU, 7 ~{S} (in), 8 Q (out), 9 ~{W} (in), 10 VSS (power), 11 DU, 12 DU, 13 DU, 14 DU, 15 D (in), 16 CLK (in)

## Mem M25P128VMF SO16_2
designator U28?, comment NX25P16-VFI
ATHEROS KEY: 135-00033-000
footprint SO16
pins: 1 ~{HOLD} (in), 2 VCC (power), 3 DU, 4 DU, 5 DU, 6 DU, 7 ~{S} (in), 8 Q (out), 9 ~{W} (in), 10 VSS (power), 11 DU, 12 DU, 13 DU, 14 DU, 15 D (in), 16 CLK (in)

## MiniCard_Card_Host_V12_0
designator U?, comment MiniCard_Card_Host
footprint PCIe-MiniCard-half
pins: 1 ~{WAKE#} (oc), 2 +3.3Vaux (in), 3 COEX1, 4 GND (in), 5 COEX2, 6 +1.5V (in), 7 CLKREQ# (oc), 8 UIM_PWR (in), 9 GND (in), 10 UIM_DATA (io), 11 REFCLK- (out), 12 UIM_CLK (in), 13 REFCLK+ (out), 14 UIM_RESET (in), 15 GND (in), 16 UIM_VPP (in), 17 RESERVED, 18 GND (in), 19 RESERVED, 20 W_DISABLE#, 21 GND (in), 22 PERST# (out), 23 PERn0, 24 +3.3Vaux (in), 25 PERp0, 26 GND (in), 27 GND (in), 28 +1.5V (in), 29 GND (in), 30 SMB_CLK (io), 31 PETn0, 32 SMB_DATA (io), 33 PETp0, 34 GND (in), 35 GND (in), 36 USB_D- (io), 37 GND (power), 38 USB_D+ (io), 39 +3.3Vaux (in), 40 GND (in), 41 +3.3Vaux (in), 42 LED_WWAN#(5V) (in), 43 GND (in), 44 LED_WLAN# (in), 45 RESERVED, 46 LED_WPAN#(5V) (in), 47 RESERVED(5V), 48 +1.5V(5V) (in), 49 RESERVED(5V), 50 GND (in), 51 RESERVED, 52 +3.3Vaux (in), 53 G, 54 G, 57 GND, 58 GND
text: TOP; BOT

## MiniCard_Card_Host_V12_1
designator U?, comment MiniCard_Card_Host
footprint PCIe-MiniCard-half
pins: 1 ~{WAKE#}, 2 +3.3Vaux, 3 COEX1, 4 GND, 5 COEX2, 6 +1.5V, 7 CLKREQ#, 8 UIM_PWR, 9 GND, 10 UIM_DATA, 11 REFCLK-, 12 UIM_CLK, 13 REFCLK+, 14 UIM_RESET, 15 GND, 16 UIM_VPP, 17 RESERVED, 18 GND, 19 RESERVED, 20 W_DISABLE#, 21 GND, 22 PERST#, 23 PERn0, 24 +3.3Vaux, 25 PERp0, 26 GND, 27 GND, 28 +1.5V, 29 GND, 30 SMB_CLK, 31 PETn0, 32 SMB_DATA, 33 PETp0, 34 GND, 35 GND, 36 USB_D-, 37 GND (power), 38 USB_D+, 39 +3.3Vaux, 40 GND, 41 +3.3Vaux, 42 LED_WWAN#(5V), 43 GND, 44 LED_WLAN#, 45 RESERVED, 46 LED_WPAN#(5V), 47 RESERVED(5V), 48 +1.5V(5V), 49 RESERVED(5V), 50 GND, 51 RESERVED, 52 +3.3Vaux, 53 G, 54 G, 57 GND, 58 GND
text: TOP; BOT

## MMBT3904/SOT_0
designator Q?
pins: 1 B, 2 E, 3 C

## MSS1P4-E3_0
designator D?
footprint DIODE/0603
pins: 1 ANODE, 2 CATHODE

## MSS1P4-E3_1
designator D?
footprint DIODE/0603
pins: 1 ANODE, 2 CATHODE

## MSS1P4-E3_2
designator D?
footprint 0603
pins: 1 ANODE, 2 CATHODE

## MSS1P4-E3_3
designator D?
footprint 0603
pins: 1 ANODE, 2 CATHODE

## MT47H16M16BG_0
designator U?
NC: A2,E2,L1,R3,R7,R8
pins: A1 VDD (power), A2 NC1, A3 VSS (power), A7 VSSQ (power), A8 NU/UDQS_N (io), A9 VDDQ (power), B1 DQ14 (io), B2 VSSQ (power), B3 UDM (in), B7 UDQS_P (in), B8 VSSQ (power), B9 DQ15 (io), C1 VDDQ (power), C2 DQ9 (io), C3 VDDQ (power), C7 VDDQ (power), C8 DQ8 (io), C9 VDDQ (power), D1 DQ12 (io), D2 VSSQ (power), D3 DQ11 (io), D7 DQ10 (io), D8 VSSQ (power), D9 DQ13 (io), E1 VDD (power), E2 NC2, E3 VSS (power), E7 VSSQ (power), E8 NU/LDQS_N (io), E9 VDDQ (power), F1 DQ6 (io), F2 VSSQ (power), F3 LDM (in), F7 LDQS_P (in), F8 VSSQ (power), F9 DQ7 (io), G1 VDDQ (power), G2 DQ1 (io), G3 VDDQ (power), G7 VDDQ (power), G8 DQ0 (io), G9 VDDQ (power), H1 DQ4 (io), H2 VSSQ (power), H3 DQ3 (io), H7 DQ2 (io), H8 VSSQ (power), H9 DQ5 (io), J1 VDDL (power), J2 VREF (power), J3 VSS (power), J7 VSSDL (power), J8 CK_P (in), J9 VDD (power), K2 CKE (in), K3 ~{WE} (in), K7 ~{RAS} (in), K8 CK_N (in), K9 ODT (in), L2 BA0 (in), L3 BA1 (in), L7 ~{CAS} (in), L8 ~{CS} (in), M2 A10 (in), M3 A1 (in), M7 A2 (in), M8 A0 (in), M9 VDD (power), N1 VSS (power), N2 A3 (in), N3 A5 (in), N7 A6 (in), N8 A4 (in), P2 A7 (in), P3 A9 (in), P7 A11 (in), P8 A8 (in), P9 VSS (power), R1 VDD (power), R2 A12 (in), R3 NC4, R7 NC5, R8 NC6
text: 512Mb (32MX16); DDR2 SDRAM

## MT47H16M16BG_1
designator U?
NC: A2,E2,L1,R3,R7,R8
pins: 1 VDD (power), 2 DQ0 (io), 3 VDDQ (power), 4 DQ1 (io), 5 DQ2 (io), 6 VSSQ (power), 7 DQ3 (io), 8 DQ4 (io), 9 VDDQ (power), 10 DQ5 (io), 11 DQ6 (io), 12 VSSQ (power), 13 DQ7 (io), 14 NC1, 15 VDDQ (power), 16 LDQS (in), 17 NC2, 18 VDD (power), 19 DNU, 20 LDM (in), 21 ~{WE} (in), 22 ~{CAS} (in), 23 ~{RAS} (in), 24 ~{CS} (in), 25 NC4, 26 BA0 (in), 27 BA1 (in), 28 A10 (in), 29 A0 (in), 30 A1 (in), 31 A2 (in), 32 A3 (in), 33 VDD (power), 34 VSS (power), 35 A4 (in), 36 A5 (in), 37 A6 (in), 38 A7 (in), 39 A8 (in), 40 A9 (in), 41 A11 (in), 42 A12 (in), 43 NC5, 44 CKE (in), 45 CK_P (in), 46 CK_N (in), 47 UDM (in), 48 VSS (power), 49 VREF (power), 50 DNU, 51 UDQS (in), 52 VSSQ (power), 53 NC6, 54 DQ8 (io), 55 VDDQ (power), 56 DQ9 (io), 57 DQ10 (io), 58 VSSQ (power), 59 DQ11 (io), 60 DQ12 (io), 61 VDDQ (power), 62 DQ13 (io), 63 DQ14 (io), 64 VSSQ (power), 65 DQ15 (io), 66 VSS (power)
text: 512Mb (32MX16); DDR2 SDRAM

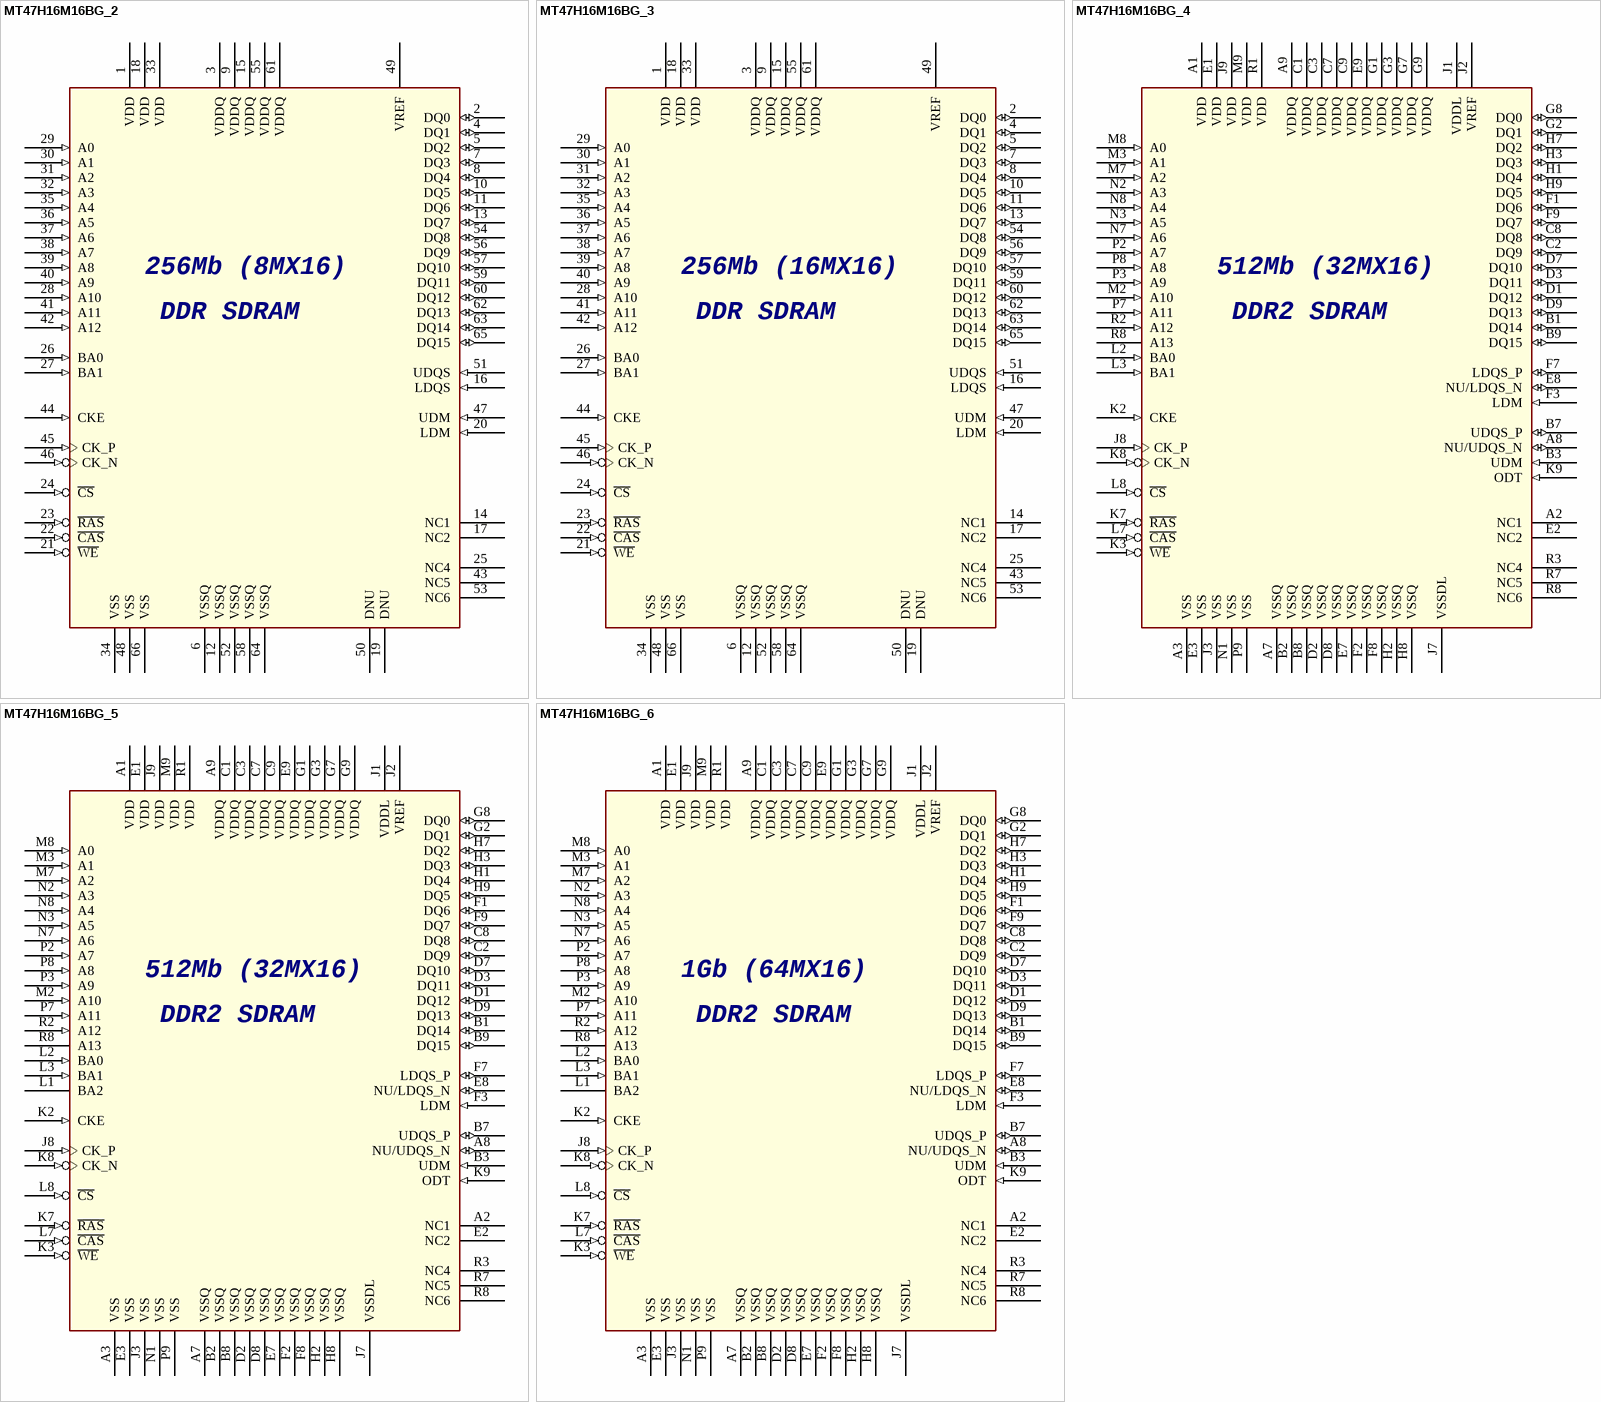
[diagram p5: symbols MT47H16M16BG_2 to MT47H16M16BG_6]

## MT47H16M16BG_2
designator U?
NC: A2,E2,L1,R3,R7,R8
pins: 1 VDD (power), 2 DQ0 (io), 3 VDDQ (power), 4 DQ1 (io), 5 DQ2 (io), 6 VSSQ (power), 7 DQ3 (io), 8 DQ4 (io), 9 VDDQ (power), 10 DQ5 (io), 11 DQ6 (io), 12 VSSQ (power), 13 DQ7 (io), 14 NC1, 15 VDDQ (power), 16 LDQS (in), 17 NC2, 18 VDD (power), 19 DNU, 20 LDM (in), 21 ~{WE} (in), 22 ~{CAS} (in), 23 ~{RAS} (in), 24 ~{CS} (in), 25 NC4, 26 BA0 (in), 27 BA1 (in), 28 A10 (in), 29 A0 (in), 30 A1 (in), 31 A2 (in), 32 A3 (in), 33 VDD (power), 34 VSS (power), 35 A4 (in), 36 A5 (in), 37 A6 (in), 38 A7 (in), 39 A8 (in), 40 A9 (in), 41 A11 (in), 42 A12 (in), 43 NC5, 44 CKE (in), 45 CK_P (in), 46 CK_N (in), 47 UDM (in), 48 VSS (power), 49 VREF (power), 50 DNU, 51 UDQS (in), 52 VSSQ (power), 53 NC6, 54 DQ8 (io), 55 VDDQ (power), 56 DQ9 (io), 57 DQ10 (io), 58 VSSQ (power), 59 DQ11 (io), 60 DQ12 (io), 61 VDDQ (power), 62 DQ13 (io), 63 DQ14 (io), 64 VSSQ (power), 65 DQ15 (io), 66 VSS (power)
text: 256Mb (8MX16); DDR SDRAM

## MT47H16M16BG_3
designator U?
NC: A2,E2,L1,R3,R7,R8
pins: 1 VDD (power), 2 DQ0 (io), 3 VDDQ (power), 4 DQ1 (io), 5 DQ2 (io), 6 VSSQ (power), 7 DQ3 (io), 8 DQ4 (io), 9 VDDQ (power), 10 DQ5 (io), 11 DQ6 (io), 12 VSSQ (power), 13 DQ7 (io), 14 NC1, 15 VDDQ (power), 16 LDQS (in), 17 NC2, 18 VDD (power), 19 DNU, 20 LDM (in), 21 ~{WE} (in), 22 ~{CAS} (in), 23 ~{RAS} (in), 24 ~{CS} (in), 25 NC4, 26 BA0 (in), 27 BA1 (in), 28 A10 (in), 29 A0 (in), 30 A1 (in), 31 A2 (in), 32 A3 (in), 33 VDD (power), 34 VSS (power), 35 A4 (in), 36 A5 (in), 37 A6 (in), 38 A7 (in), 39 A8 (in), 40 A9 (in), 41 A11 (in), 42 A12 (in), 43 NC5, 44 CKE (in), 45 CK_P (in), 46 CK_N (in), 47 UDM (in), 48 VSS (power), 49 VREF (power), 50 DNU, 51 UDQS (in), 52 VSSQ (power), 53 NC6, 54 DQ8 (io), 55 VDDQ (power), 56 DQ9 (io), 57 DQ10 (io), 58 VSSQ (power), 59 DQ11 (io), 60 DQ12 (io), 61 VDDQ (power), 62 DQ13 (io), 63 DQ14 (io), 64 VSSQ (power), 65 DQ15 (io), 66 VSS (power)
text: 256Mb (16MX16); DDR SDRAM

## MT47H16M16BG_4
designator U?
NC: A2,E2,L1,R3,R7,R8
pins: A1 VDD (power), A2 NC1, A3 VSS (power), A7 VSSQ (power), A8 NU/UDQS_N (io), A9 VDDQ (power), B1 DQ14 (io), B2 VSSQ (power), B3 UDM (in), B7 UDQS_P (io), B8 VSSQ (power), B9 DQ15 (io), C1 VDDQ (power), C2 DQ9 (io), C3 VDDQ (power), C7 VDDQ (power), C8 DQ8 (io), C9 VDDQ (power), D1 DQ12 (io), D2 VSSQ (power), D3 DQ11 (io), D7 DQ10 (io), D8 VSSQ (power), D9 DQ13 (io), E1 VDD (power), E2 NC2, E3 VSS (power), E7 VSSQ (power), E8 NU/LDQS_N (io), E9 VDDQ (power), F1 DQ6 (io), F2 VSSQ (power), F3 LDM (in), F7 LDQS_P (io), F8 VSSQ (power), F9 DQ7 (io), G1 VDDQ (power), G2 DQ1 (io), G3 VDDQ (power), G7 VDDQ (power), G8 DQ0 (io), G9 VDDQ (power), H1 DQ4 (io), H2 VSSQ (power), H3 DQ3 (io), H7 DQ2 (io), H8 VSSQ (power), H9 DQ5 (io), J1 VDDL (power), J2 VREF (power), J3 VSS (power), J7 VSSDL (power), J8 CK_P (in), J9 VDD (power), K2 CKE (in), K3 ~{WE} (in), K7 ~{RAS} (in), K8 CK_N (in), K9 ODT (in), L2 BA0 (in), L3 BA1 (in), L7 ~{CAS} (in), L8 ~{CS} (in), M2 A10 (in), M3 A1 (in), M7 A2 (in), M8 A0 (in), M9 VDD (power), N1 VSS (power), N2 A3 (in), N3 A5 (in), N7 A6 (in), N8 A4 (in), P2 A7 (in), P3 A9 (in), P7 A11 (in), P8 A8 (in), P9 VSS (power), R1 VDD (power), R2 A12 (in), R3 NC4, R7 NC5, R8 NC6, R8 A13
text: 512Mb (32MX16); DDR2 SDRAM

## MT47H16M16BG_5
designator U?
NC: A2,E2,L1,R3,R7,R8
pins: A1 VDD (power), A2 NC1, A3 VSS (power), A7 VSSQ (power), A8 NU/UDQS_N (io), A9 VDDQ (power), B1 DQ14 (io), B2 VSSQ (power), B3 UDM (in), B7 UDQS_P (io), B8 VSSQ (power), B9 DQ15 (io), C1 VDDQ (power), C2 DQ9 (io), C3 VDDQ (power), C7 VDDQ (power), C8 DQ8 (io), C9 VDDQ (power), D1 DQ12 (io), D2 VSSQ (power), D3 DQ11 (io), D7 DQ10 (io), D8 VSSQ (power), D9 DQ13 (io), E1 VDD (power), E2 NC2, E3 VSS (power), E7 VSSQ (power), E8 NU/LDQS_N (io), E9 VDDQ (power), F1 DQ6 (io), F2 VSSQ (power), F3 LDM (in), F7 LDQS_P (io), F8 VSSQ (power), F9 DQ7 (io), G1 VDDQ (power), G2 DQ1 (io), G3 VDDQ (power), G7 VDDQ (power), G8 DQ0 (io), G9 VDDQ (power), H1 DQ4 (io), H2 VSSQ (power), H3 DQ3 (io), H7 DQ2 (io), H8 VSSQ (power), H9 DQ5 (io), J1 VDDL (power), J2 VREF (power), J3 VSS (power), J7 VSSDL (power), J8 CK_P (in), J9 VDD (power), K2 CKE (in), K3 ~{WE} (in), K7 ~{RAS} (in), K8 CK_N (in), K9 ODT (in), L1 BA2, L2 BA0 (in), L3 BA1 (in), L7 ~{CAS} (in), L8 ~{CS} (in), M2 A10 (in), M3 A1 (in), M7 A2 (in), M8 A0 (in), M9 VDD (power), N1 VSS (power), N2 A3 (in), N3 A5 (in), N7 A6 (in), N8 A4 (in), P2 A7 (in), P3 A9 (in), P7 A11 (in), P8 A8 (in), P9 VSS (power), R1 VDD (power), R2 A12 (in), R3 NC4, R7 NC5, R8 NC6, R8 A13
text: 512Mb (32MX16); DDR2 SDRAM

## MT47H16M16BG_6
designator U?
NC: A2,E2,L1,R3,R7,R8
pins: A1 VDD (power), A2 NC1, A3 VSS (power), A7 VSSQ (power), A8 NU/UDQS_N (io), A9 VDDQ (power), B1 DQ14 (io), B2 VSSQ (power), B3 UDM (in), B7 UDQS_P (io), B8 VSSQ (power), B9 DQ15 (io), C1 VDDQ (power), C2 DQ9 (io), C3 VDDQ (power), C7 VDDQ (power), C8 DQ8 (io), C9 VDDQ (power), D1 DQ12 (io), D2 VSSQ (power), D3 DQ11 (io), D7 DQ10 (io), D8 VSSQ (power), D9 DQ13 (io), E1 VDD (power), E2 NC2, E3 VSS (power), E7 VSSQ (power), E8 NU/LDQS_N (io), E9 VDDQ (power), F1 DQ6 (io), F2 VSSQ (power), F3 LDM (in), F7 LDQS_P (io), F8 VSSQ (power), F9 DQ7 (io), G1 VDDQ (power), G2 DQ1 (io), G3 VDDQ (power), G7 VDDQ (power), G8 DQ0 (io), G9 VDDQ (power), H1 DQ4 (io), H2 VSSQ (power), H3 DQ3 (io), H7 DQ2 (io), H8 VSSQ (power), H9 DQ5 (io), J1 VDDL (power), J2 VREF (power), J3 VSS (power), J7 VSSDL (power), J8 CK_P (in), J9 VDD (power), K2 CKE (in), K3 ~{WE} (in), K7 ~{RAS} (in), K8 CK_N (in), K9 ODT (in), L1 BA2, L2 BA0 (in), L3 BA1 (in), L7 ~{CAS} (in), L8 ~{CS} (in), M2 A10 (in), M3 A1 (in), M7 A2 (in), M8 A0 (in), M9 VDD (power), N1 VSS (power), N2 A3 (in), N3 A5 (in), N7 A6 (in), N8 A4 (in), P2 A7 (in), P3 A9 (in), P7 A11 (in), P8 A8 (in), P9 VSS (power), R1 VDD (power), R2 A12 (in), R3 NC4, R7 NC5, R8 NC6, R8 A13
text: 1Gb (64MX16); DDR2 SDRAM

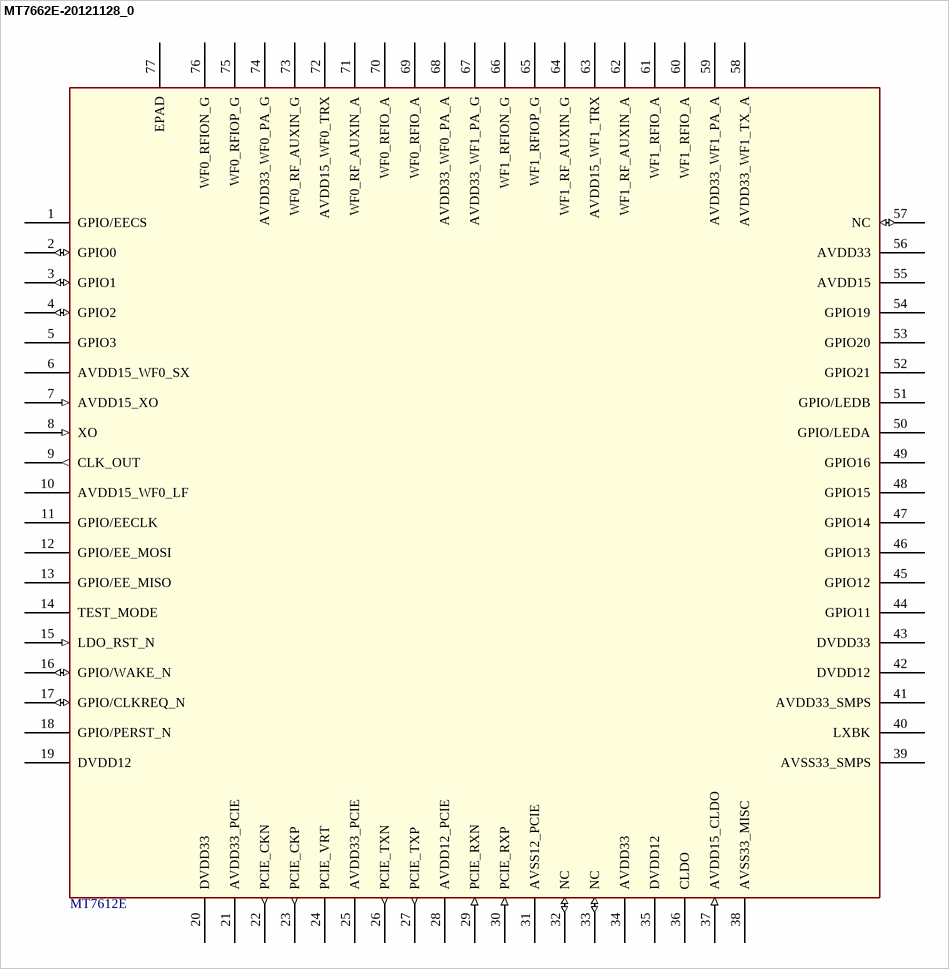
[diagram p6: symbol MT7662E-20121128_0]

## MT7662E-20121128_0
designator U?, comment MT7612E
footprint QFN68
pins: 1 GPIO/EECS, 2 GPIO0 (io), 3 GPIO1 (io), 4 GPIO2 (io), 5 GPIO3, 6 AVDD15_WF0_SX (power), 7 AVDD15_XO (in), 8 XO (in), 9 CLK_OUT (out), 10 AVDD15_WF0_LF (power), 11 GPIO/EECLK, 12 GPIO/EE_MOSI, 13 GPIO/EE_MISO, 14 TEST_MODE, 15 LDO_RST_N (in), 16 GPIO/WAKE_N (io), 17 GPIO/CLKREQ_N (io), 18 GPIO/PERST_N, 19 DVDD12, 20 DVDD33 (power), 21 AVDD33_PCIE (power), 22 PCIE_CKN (out), 23 PCIE_CKP (out), 24 PCIE_VRT, 25 AVDD33_PCIE (power), 26 PCIE_TXN (out), 27 PCIE_TXP (out), 28 AVDD12_PCIE (power), 29 PCIE_RXN (in), 30 PCIE_RXP (in), 31 AVSS12_PCIE (power), 32 NC (io), 33 NC (io), 34 AVDD33 (power), 35 DVDD12, 36 CLDO (power), 37 AVDD15_CLDO (in), 38 AVSS33_MISC (power), 39 AVSS33_SMPS (power), 40 LXBK (power), 41 AVDD33_SMPS (power), 42 DVDD12, 43 DVDD33, 44 GPIO11, 45 GPIO12, 46 GPIO13, 47 GPIO14, 48 GPIO15, 49 GPIO16, 50 GPIO/LEDA, 51 GPIO/LEDB, 52 GPIO21, 53 GPIO20, 54 GPIO19, 55 AVDD15 (power), 56 AVDD33 (power), 57 NC (io), 58 AVDD33_WF1_TX_A (power), 59 AVDD33_WF1_PA_A (power), 60 WF1_RFIO_A, 61 WF1_RFIO_A, 62 WF1_RF_AUXIN_A, 63 AVDD15_WF1_TRX (power), 64 WF1_RF_AUXIN_G, 65 WF1_RFIOP_G, 66 WF1_RFION_G, 67 AVDD33_WF1_PA_G (power), 68 AVDD33_WF0_PA_A (power), 69 WF0_RFIO_A, 70 WF0_RFIO_A, 71 WF0_RF_AUXIN_A, 72 AVDD15_WF0_TRX (power), 73 WF0_RF_AUXIN_G, 74 AVDD33_WF0_PA_G (power), 75 WF0_RFIOP_G, 76 WF0_RFION_G, 77 EPAD (power)

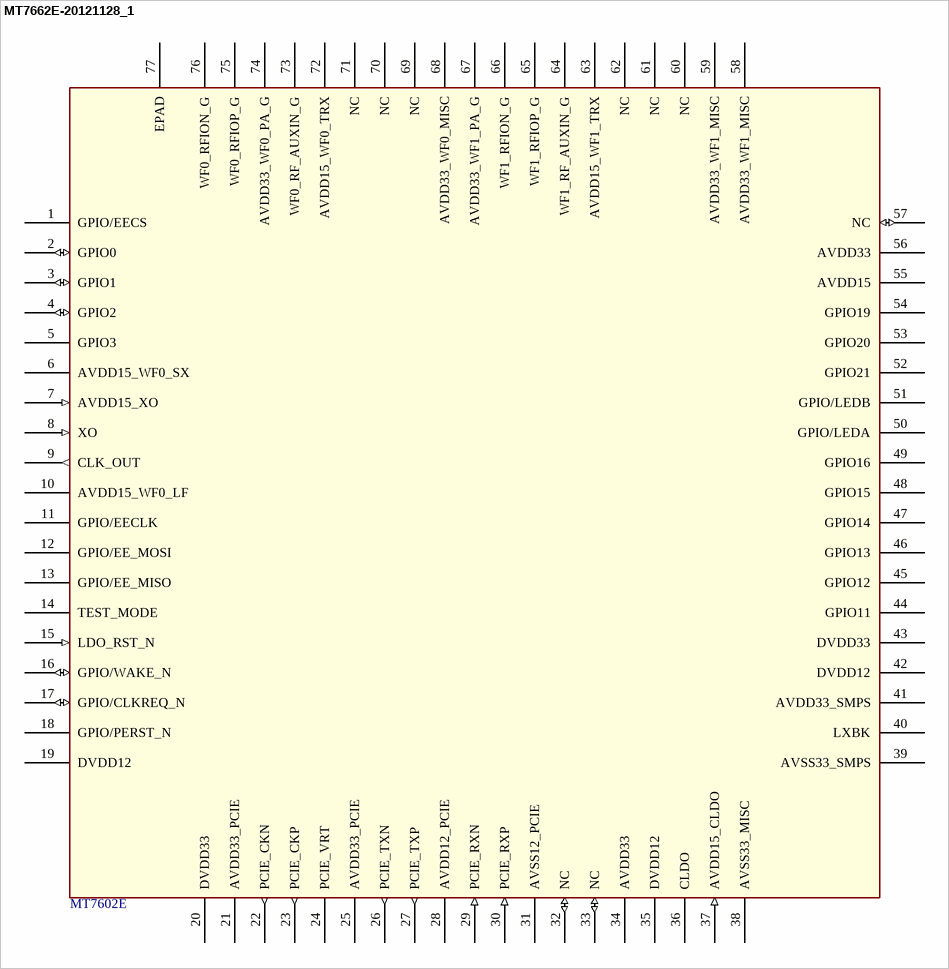
[diagram p7: symbol MT7662E-20121128_1]

## MT7662E-20121128_1
designator U?, comment MT7602E
footprint QFN68
pins: 1 GPIO/EECS, 2 GPIO0 (io), 3 GPIO1 (io), 4 GPIO2 (io), 5 GPIO3, 6 AVDD15_WF0_SX (power), 7 AVDD15_XO (in), 8 XO (in), 9 CLK_OUT (out), 10 AVDD15_WF0_LF (power), 11 GPIO/EECLK, 12 GPIO/EE_MOSI, 13 GPIO/EE_MISO, 14 TEST_MODE, 15 LDO_RST_N (in), 16 GPIO/WAKE_N (io), 17 GPIO/CLKREQ_N (io), 18 GPIO/PERST_N, 19 DVDD12, 20 DVDD33 (power), 21 AVDD33_PCIE (power), 22 PCIE_CKN (out), 23 PCIE_CKP (out), 24 PCIE_VRT, 25 AVDD33_PCIE (power), 26 PCIE_TXN (out), 27 PCIE_TXP (out), 28 AVDD12_PCIE (power), 29 PCIE_RXN (in), 30 PCIE_RXP (in), 31 AVSS12_PCIE (power), 32 NC (io), 33 NC (io), 34 AVDD33 (power), 35 DVDD12, 36 CLDO (power), 37 AVDD15_CLDO (in), 38 AVSS33_MISC (power), 39 AVSS33_SMPS (power), 40 LXBK (power), 41 AVDD33_SMPS (power), 42 DVDD12, 43 DVDD33, 44 GPIO11, 45 GPIO12, 46 GPIO13, 47 GPIO14, 48 GPIO15, 49 GPIO16, 50 GPIO/LEDA, 51 GPIO/LEDB, 52 GPIO21, 53 GPIO20, 54 GPIO19, 55 AVDD15 (power), 56 AVDD33 (power), 57 NC (io), 58 AVDD33_WF1_MISC (power), 59 AVDD33_WF1_MISC (power), 60 NC, 61 NC, 62 NC, 63 AVDD15_WF1_TRX (power), 64 WF1_RF_AUXIN_G, 65 WF1_RFIOP_G, 66 WF1_RFION_G, 67 AVDD33_WF1_PA_G (power), 68 AVDD33_WF0_MISC (power), 69 NC, 70 NC, 71 NC, 72 AVDD15_WF0_TRX (power), 73 WF0_RF_AUXIN_G, 74 AVDD33_WF0_PA_G (power), 75 WF0_RFIOP_G, 76 WF0_RFION_G, 77 EPAD (power)

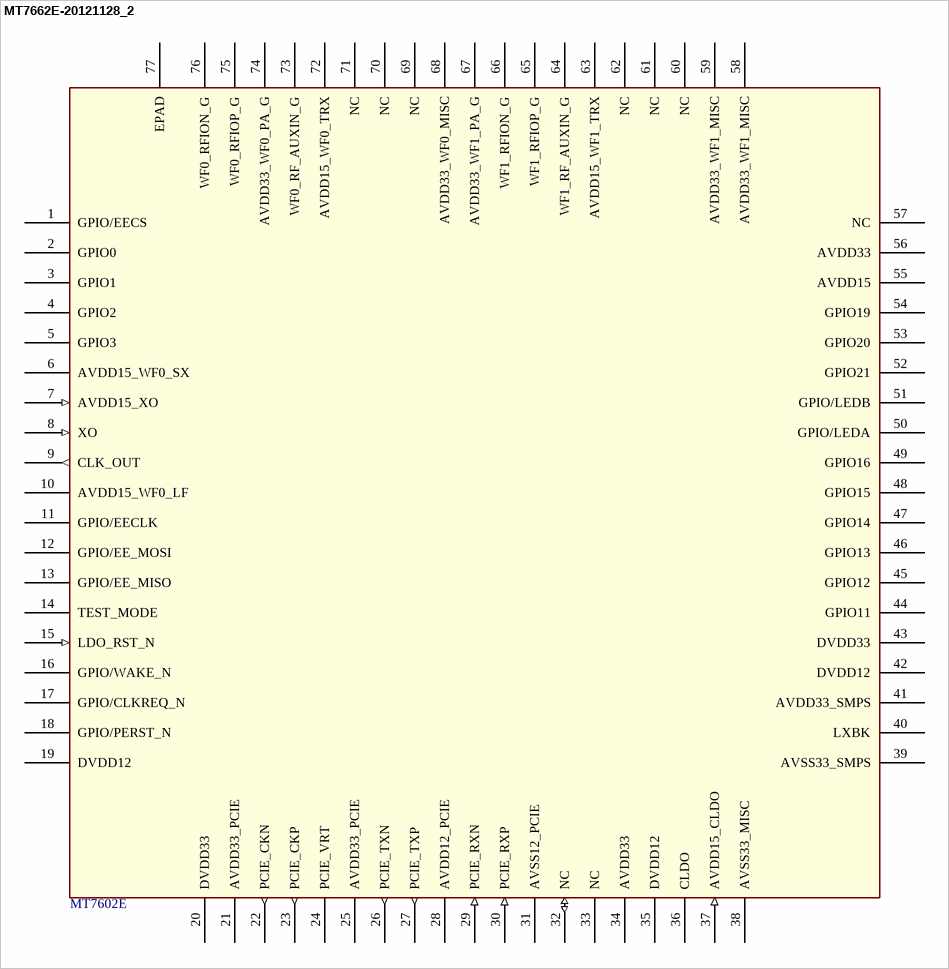
[diagram p8: symbol MT7662E-20121128_2]

## MT7662E-20121128_2
designator U?, comment MT7602E
footprint QFN68
pins: 1 GPIO/EECS, 2 GPIO0, 3 GPIO1, 4 GPIO2, 5 GPIO3, 6 AVDD15_WF0_SX (power), 7 AVDD15_XO (in), 8 XO (in), 9 CLK_OUT (out), 10 AVDD15_WF0_LF (power), 11 GPIO/EECLK, 12 GPIO/EE_MOSI, 13 GPIO/EE_MISO, 14 TEST_MODE, 15 LDO_RST_N (in), 16 GPIO/WAKE_N, 17 GPIO/CLKREQ_N, 18 GPIO/PERST_N, 19 DVDD12, 20 DVDD33 (power), 21 AVDD33_PCIE (power), 22 PCIE_CKN (out), 23 PCIE_CKP (out), 24 PCIE_VRT, 25 AVDD33_PCIE (power), 26 PCIE_TXN (out), 27 PCIE_TXP (out), 28 AVDD12_PCIE (power), 29 PCIE_RXN (in), 30 PCIE_RXP (in), 31 AVSS12_PCIE (power), 32 NC (io), 33 NC, 34 AVDD33 (power), 35 DVDD12, 36 CLDO (power), 37 AVDD15_CLDO (in), 38 AVSS33_MISC (power), 39 AVSS33_SMPS (power), 40 LXBK (power), 41 AVDD33_SMPS (power), 42 DVDD12, 43 DVDD33, 44 GPIO11, 45 GPIO12, 46 GPIO13, 47 GPIO14, 48 GPIO15, 49 GPIO16, 50 GPIO/LEDA, 51 GPIO/LEDB, 52 GPIO21, 53 GPIO20, 54 GPIO19, 55 AVDD15 (power), 56 AVDD33 (power), 57 NC, 58 AVDD33_WF1_MISC (power), 59 AVDD33_WF1_MISC (power), 60 NC, 61 NC, 62 NC, 63 AVDD15_WF1_TRX (power), 64 WF1_RF_AUXIN_G, 65 WF1_RFIOP_G, 66 WF1_RFION_G, 67 AVDD33_WF1_PA_G (power), 68 AVDD33_WF0_MISC (power), 69 NC, 70 NC, 71 NC, 72 AVDD15_WF0_TRX (power), 73 WF0_RF_AUXIN_G, 74 AVDD33_WF0_PA_G (power), 75 WF0_RFIOP_G, 76 WF0_RFION_G, 77 EPAD (power)

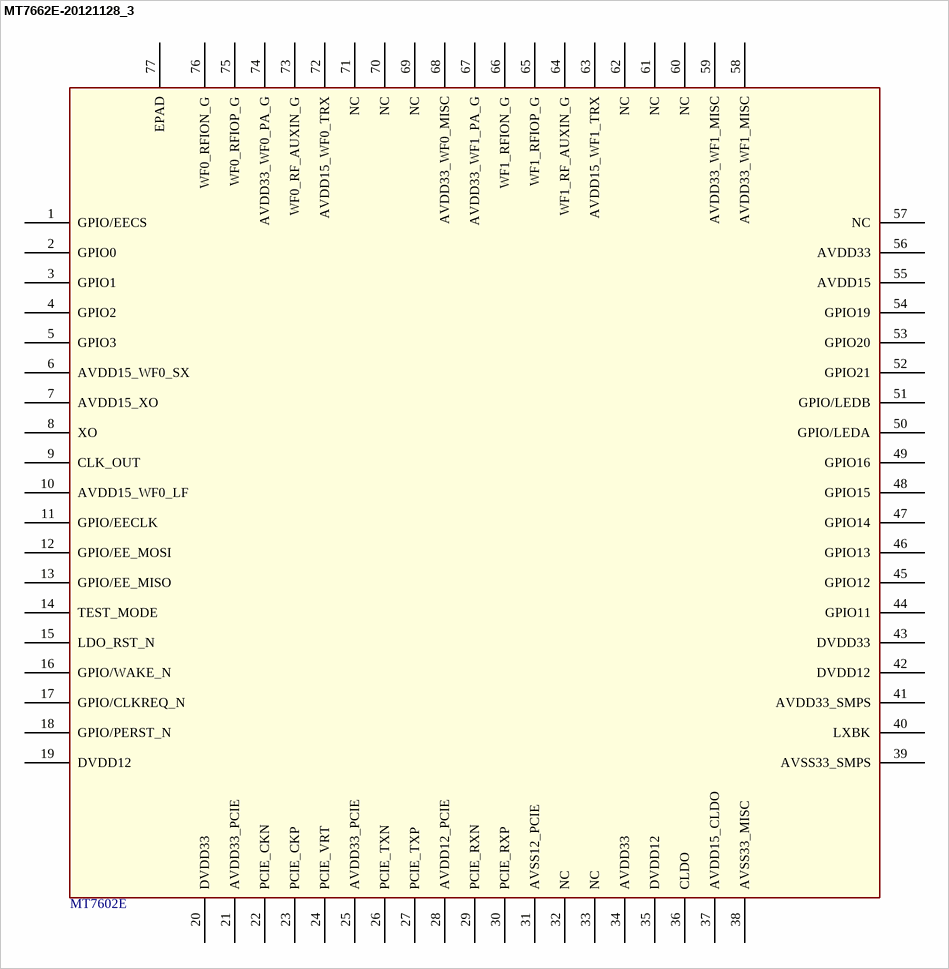
[diagram p9: symbol MT7662E-20121128_3]

## MT7662E-20121128_3
designator U?, comment MT7602E
footprint QFN68
pins: 1 GPIO/EECS, 2 GPIO0, 3 GPIO1, 4 GPIO2, 5 GPIO3, 6 AVDD15_WF0_SX (power), 7 AVDD15_XO, 8 XO, 9 CLK_OUT, 10 AVDD15_WF0_LF (power), 11 GPIO/EECLK, 12 GPIO/EE_MOSI, 13 GPIO/EE_MISO, 14 TEST_MODE, 15 LDO_RST_N, 16 GPIO/WAKE_N, 17 GPIO/CLKREQ_N, 18 GPIO/PERST_N, 19 DVDD12, 20 DVDD33 (power), 21 AVDD33_PCIE (power), 22 PCIE_CKN, 23 PCIE_CKP, 24 PCIE_VRT, 25 AVDD33_PCIE (power), 26 PCIE_TXN, 27 PCIE_TXP, 28 AVDD12_PCIE (power), 29 PCIE_RXN, 30 PCIE_RXP, 31 AVSS12_PCIE (power), 32 NC, 33 NC, 34 AVDD33 (power), 35 DVDD12, 36 CLDO, 37 AVDD15_CLDO, 38 AVSS33_MISC (power), 39 AVSS33_SMPS (power), 40 LXBK, 41 AVDD33_SMPS (power), 42 DVDD12, 43 DVDD33, 44 GPIO11, 45 GPIO12, 46 GPIO13, 47 GPIO14, 48 GPIO15, 49 GPIO16, 50 GPIO/LEDA, 51 GPIO/LEDB, 52 GPIO21, 53 GPIO20, 54 GPIO19, 55 AVDD15 (power), 56 AVDD33 (power), 57 NC, 58 AVDD33_WF1_MISC, 59 AVDD33_WF1_MISC, 60 NC, 61 NC, 62 NC, 63 AVDD15_WF1_TRX (power), 64 WF1_RF_AUXIN_G, 65 WF1_RFIOP_G, 66 WF1_RFION_G, 67 AVDD33_WF1_PA_G (power), 68 AVDD33_WF0_MISC (power), 69 NC, 70 NC, 71 NC, 72 AVDD15_WF0_TRX (power), 73 WF0_RF_AUXIN_G, 74 AVDD33_WF0_PA_G (power), 75 WF0_RFIOP_G, 76 WF0_RFION_G, 77 EPAD

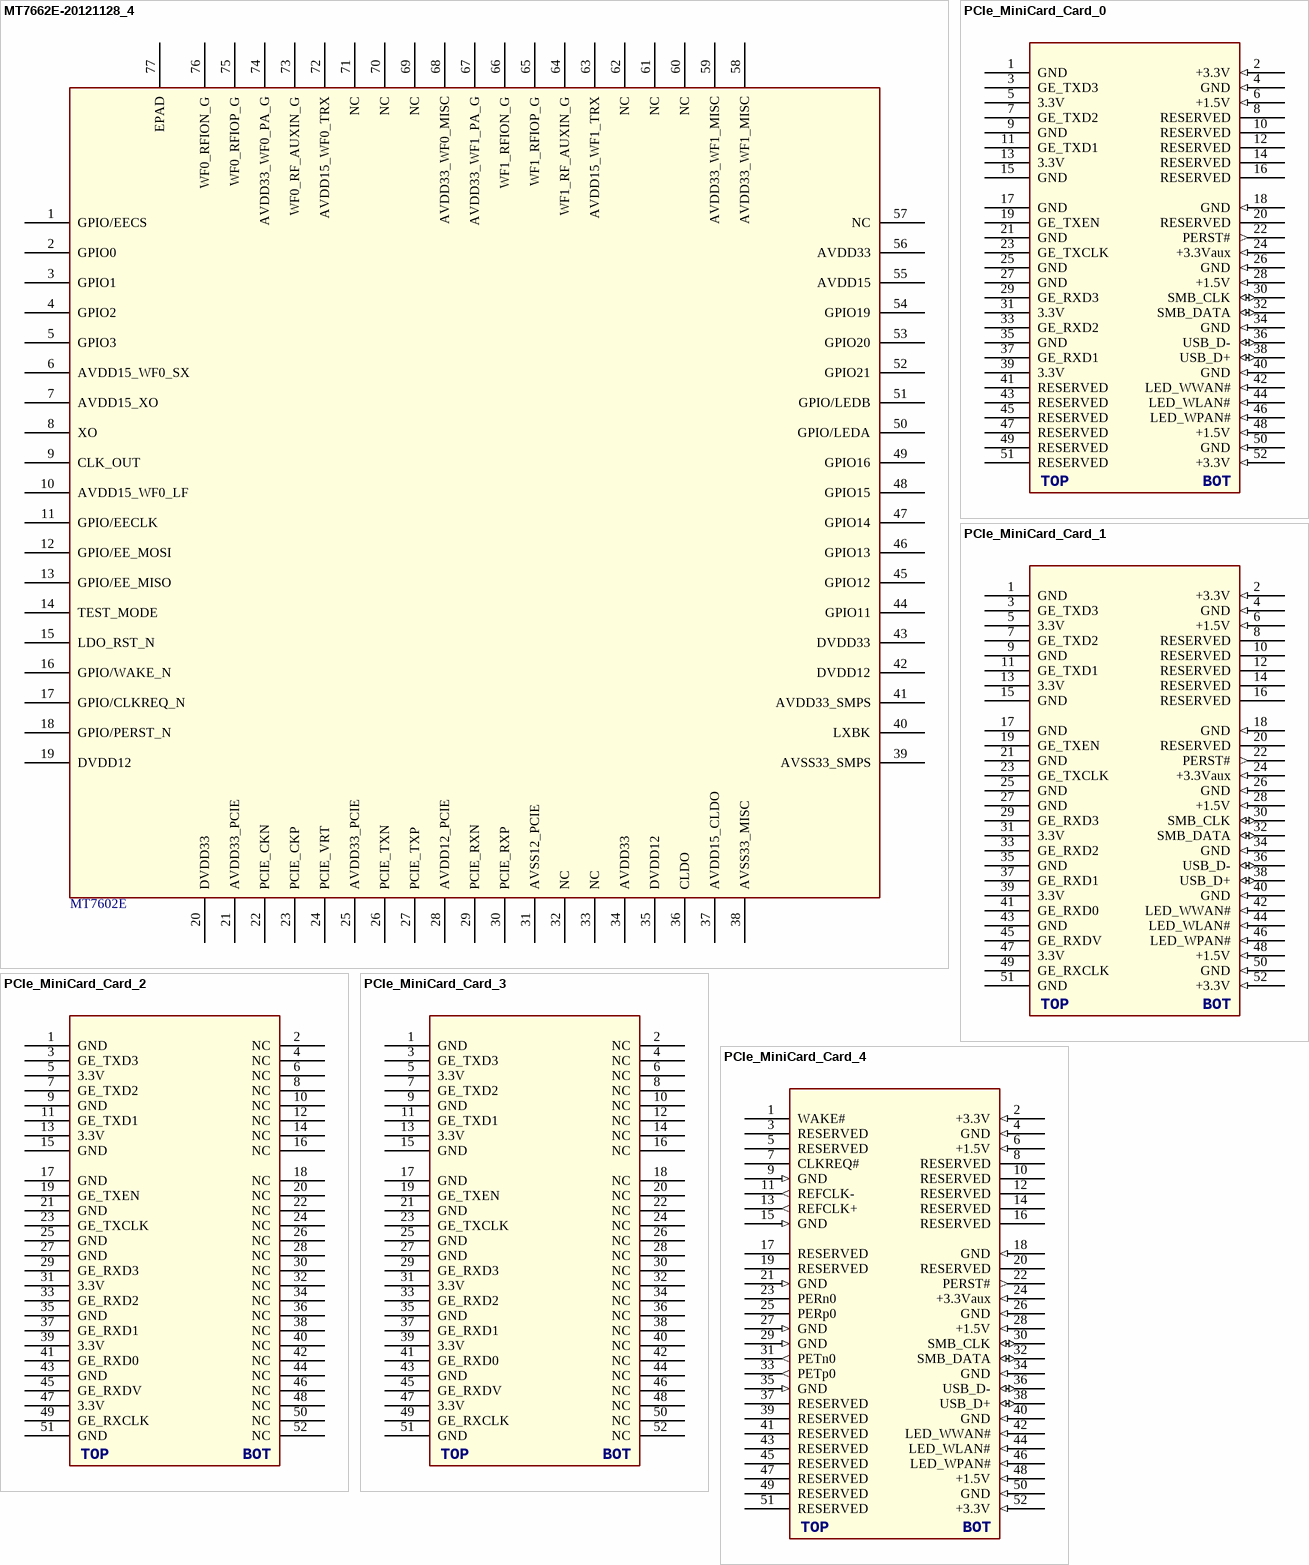
[diagram p10: symbols MT7662E-20121128_4 to PCIe_MiniCard_Card_4]

## MT7662E-20121128_4
designator U?, comment MT7602E
footprint QFN68
pins: 1 GPIO/EECS, 2 GPIO0, 3 GPIO1, 4 GPIO2, 5 GPIO3, 6 AVDD15_WF0_SX (power), 7 AVDD15_XO, 8 XO, 9 CLK_OUT, 10 AVDD15_WF0_LF (power), 11 GPIO/EECLK, 12 GPIO/EE_MOSI, 13 GPIO/EE_MISO, 14 TEST_MODE, 15 LDO_RST_N, 16 GPIO/WAKE_N, 17 GPIO/CLKREQ_N, 18 GPIO/PERST_N, 19 DVDD12, 20 DVDD33 (power), 21 AVDD33_PCIE (power), 22 PCIE_CKN, 23 PCIE_CKP, 24 PCIE_VRT, 25 AVDD33_PCIE (power), 26 PCIE_TXN, 27 PCIE_TXP, 28 AVDD12_PCIE (power), 29 PCIE_RXN, 30 PCIE_RXP, 31 AVSS12_PCIE (power), 32 NC, 33 NC, 34 AVDD33 (power), 35 DVDD12, 36 CLDO, 37 AVDD15_CLDO, 38 AVSS33_MISC, 39 AVSS33_SMPS, 40 LXBK, 41 AVDD33_SMPS, 42 DVDD12, 43 DVDD33, 44 GPIO11, 45 GPIO12, 46 GPIO13, 47 GPIO14, 48 GPIO15, 49 GPIO16, 50 GPIO/LEDA, 51 GPIO/LEDB, 52 GPIO21, 53 GPIO20, 54 GPIO19, 55 AVDD15 (power), 56 AVDD33 (power), 57 NC, 58 AVDD33_WF1_MISC, 59 AVDD33_WF1_MISC, 60 NC, 61 NC, 62 NC, 63 AVDD15_WF1_TRX (power), 64 WF1_RF_AUXIN_G, 65 WF1_RFIOP_G, 66 WF1_RFION_G, 67 AVDD33_WF1_PA_G (power), 68 AVDD33_WF0_MISC (power), 69 NC, 70 NC, 71 NC, 72 AVDD15_WF0_TRX (power), 73 WF0_RF_AUXIN_G, 74 AVDD33_WF0_PA_G (power), 75 WF0_RFIOP_G, 76 WF0_RFION_G, 77 EPAD

## PCIe_MiniCard_Card_0
designator J?
footprint PCIe-MiniCard
pins: 1 GND, 2 +3.3V (in), 3 GE_TXD3, 4 GND (in), 5 3.3V, 6 +1.5V (in), 7 GE_TXD2, 8 RESERVED, 9 GND, 10 RESERVED, 11 GE_TXD1, 12 RESERVED, 13 3.3V, 14 RESERVED, 15 GND, 16 RESERVED, 17 GND, 18 GND (in), 19 GE_TXEN, 20 RESERVED, 21 GND, 22 PERST# (out), 23 GE_TXCLK, 24 +3.3Vaux (in), 25 GND, 26 GND (in), 27 GND, 28 +1.5V (in), 29 GE_RXD3, 30 SMB_CLK (io), 31 3.3V, 32 SMB_DATA (io), 33 GE_RXD2, 34 GND (in), 35 GND, 36 USB_D- (io), 37 GE_RXD1, 38 USB_D+ (io), 39 3.3V, 40 GND (in), 41 RESERVED, 42 LED_WWAN# (in), 43 RESERVED, 44 LED_WLAN# (in), 45 RESERVED, 46 LED_WPAN# (in), 47 RESERVED, 48 +1.5V (in), 49 RESERVED, 50 GND (in), 51 RESERVED, 52 +3.3V (in)
text: TOP; BOT

## PCIe_MiniCard_Card_1
designator J?
footprint PCIe-MiniCard
pins: 1 GND, 2 +3.3V (in), 3 GE_TXD3, 4 GND (in), 5 3.3V, 6 +1.5V (in), 7 GE_TXD2, 8 RESERVED, 9 GND, 10 RESERVED, 11 GE_TXD1, 12 RESERVED, 13 3.3V, 14 RESERVED, 15 GND, 16 RESERVED, 17 GND, 18 GND (in), 19 GE_TXEN, 20 RESERVED, 21 GND, 22 PERST# (out), 23 GE_TXCLK, 24 +3.3Vaux (in), 25 GND, 26 GND (in), 27 GND, 28 +1.5V (in), 29 GE_RXD3, 30 SMB_CLK (io), 31 3.3V, 32 SMB_DATA (io), 33 GE_RXD2, 34 GND (in), 35 GND, 36 USB_D- (io), 37 GE_RXD1, 38 USB_D+ (io), 39 3.3V, 40 GND (in), 41 GE_RXD0, 42 LED_WWAN# (in), 43 GND, 44 LED_WLAN# (in), 45 GE_RXDV, 46 LED_WPAN# (in), 47 3.3V, 48 +1.5V (in), 49 GE_RXCLK, 50 GND (in), 51 GND, 52 +3.3V (in)
text: TOP; BOT

## PCIe_MiniCard_Card_2
designator J?
footprint PCIe-MiniCard
pins: 1 GND, 2 NC, 3 GE_TXD3, 4 NC, 5 3.3V, 6 NC, 7 GE_TXD2, 8 NC, 9 GND, 10 NC, 11 GE_TXD1, 12 NC, 13 3.3V, 14 NC, 15 GND, 16 NC, 17 GND, 18 NC, 19 GE_TXEN, 20 NC, 21 GND, 22 NC, 23 GE_TXCLK, 24 NC, 25 GND, 26 NC, 27 GND, 28 NC, 29 GE_RXD3, 30 NC, 31 3.3V, 32 NC, 33 GE_RXD2, 34 NC, 35 GND, 36 NC, 37 GE_RXD1, 38 NC, 39 3.3V, 40 NC, 41 GE_RXD0, 42 NC, 43 GND, 44 NC, 45 GE_RXDV, 46 NC, 47 3.3V, 48 NC, 49 GE_RXCLK, 50 NC, 51 GND, 52 NC
text: TOP; BOT

## PCIe_MiniCard_Card_3
designator J?
footprint PCIe-MiniCard Slot
pins: 1 GND, 2 NC, 3 GE_TXD3, 4 NC, 5 3.3V, 6 NC, 7 GE_TXD2, 8 NC, 9 GND, 10 NC, 11 GE_TXD1, 12 NC, 13 3.3V, 14 NC, 15 GND, 16 NC, 17 GND, 18 NC, 19 GE_TXEN, 20 NC, 21 GND, 22 NC, 23 GE_TXCLK, 24 NC, 25 GND, 26 NC, 27 GND, 28 NC, 29 GE_RXD3, 30 NC, 31 3.3V, 32 NC, 33 GE_RXD2, 34 NC, 35 GND, 36 NC, 37 GE_RXD1, 38 NC, 39 3.3V, 40 NC, 41 GE_RXD0, 42 NC, 43 GND, 44 NC, 45 GE_RXDV, 46 NC, 47 3.3V, 48 NC, 49 GE_RXCLK, 50 NC, 51 GND, 52 NC
text: TOP; BOT

## PCIe_MiniCard_Card_4
designator J?
footprint PCIe-MiniCard
pins: 1 WAKE# (oc), 2 +3.3V (in), 3 RESERVED, 4 GND (in), 5 RESERVED, 6 +1.5V (in), 7 CLKREQ# (oc), 8 RESERVED, 9 GND (in), 10 RESERVED, 11 REFCLK- (out), 12 RESERVED, 13 REFCLK+ (out), 14 RESERVED, 15 GND (in), 16 RESERVED, 17 RESERVED, 18 GND (in), 19 RESERVED, 20 RESERVED, 21 GND (in), 22 PERST# (out), 23 PERn0, 24 +3.3Vaux (in), 25 PERp0, 26 GND (in), 27 GND (in), 28 +1.5V (in), 29 GND (in), 30 SMB_CLK (io), 31 PETn0 (out), 32 SMB_DATA (io), 33 PETp0 (out), 34 GND (in), 35 GND (in), 36 USB_D- (io), 37 RESERVED, 38 USB_D+ (io), 39 RESERVED, 40 GND (in), 41 RESERVED, 42 LED_WWAN# (in), 43 RESERVED, 44 LED_WLAN# (in), 45 RESERVED, 46 LED_WPAN# (in), 47 RESERVED, 48 +1.5V (in), 49 RESERVED, 50 GND (in), 51 RESERVED, 52 +3.3V (in)
text: TOP; BOT

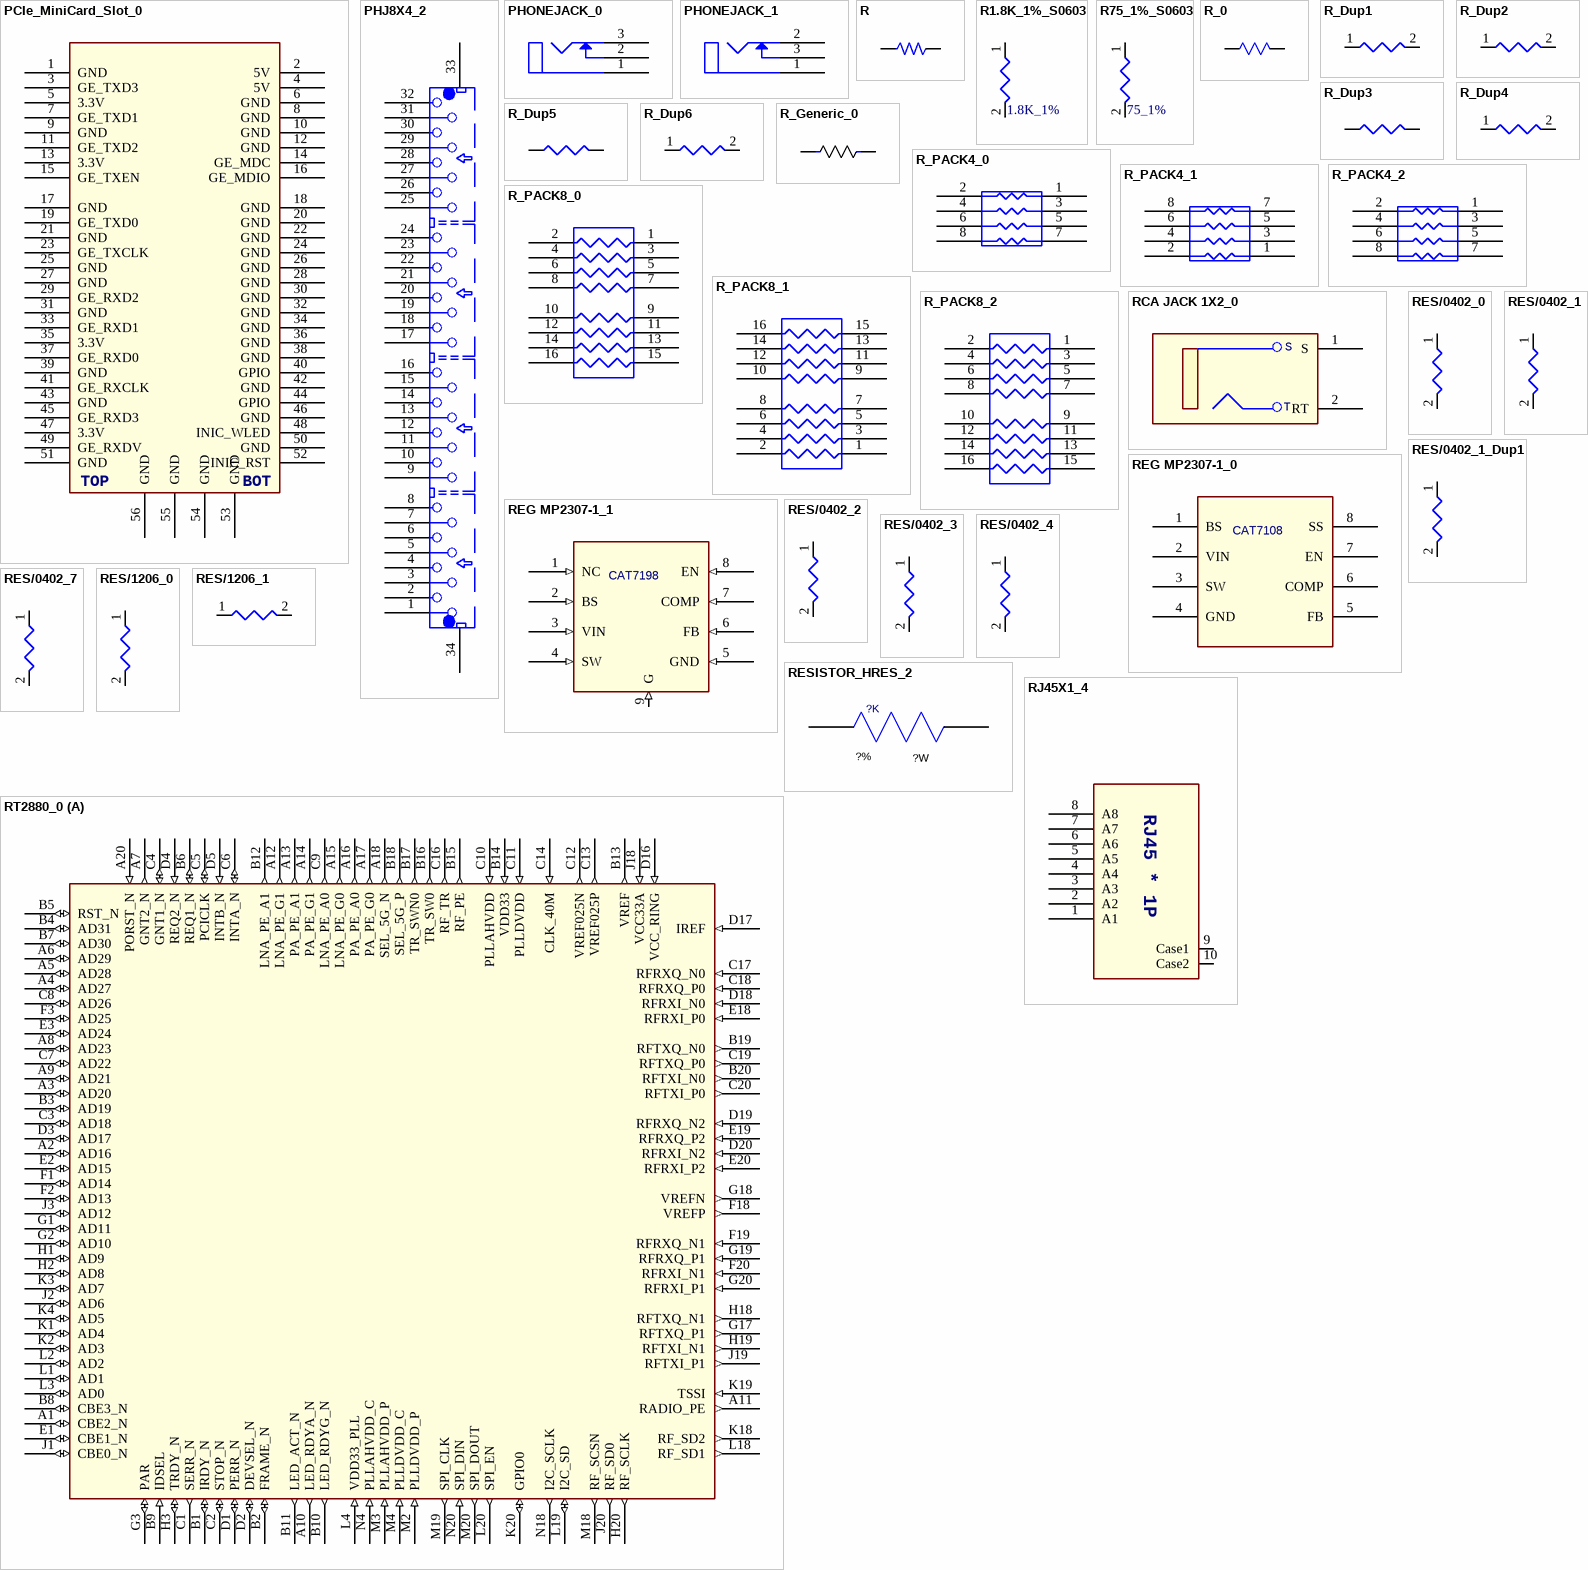
[diagram p11: symbols PCIe_MiniCard_Slot_0 to RT2880_0]

## PCIe_MiniCard_Slot_0
designator J?
footprint PCIe-MiniCard-Slot
pins: 1 GND, 2 5V, 3 GE_TXD3, 4 5V, 5 3.3V, 6 GND, 7 GE_TXD1, 8 GND, 9 GND, 10 GND, 11 GE_TXD2, 12 GND, 13 3.3V, 14 GE_MDC, 15 GE_TXEN, 16 GE_MDIO, 17 GND, 18 GND, 19 GE_TXD0, 20 GND, 21 GND, 22 GND, 23 GE_TXCLK, 24 GND, 25 GND, 26 GND, 27 GND, 28 GND, 29 GE_RXD2, 30 GND, 31 GND, 32 GND, 33 GE_RXD1, 34 GND, 35 3.3V, 36 GND, 37 GE_RXD0, 38 GND, 39 GND, 40 GPIO, 41 GE_RXCLK, 42 GND, 43 GND, 44 GPIO, 45 GE_RXD3, 46 GND, 47 3.3V, 48 INIC_WLED, 49 GE_RXDV, 50 GND, 51 GND, 52 INIC_RST, 53 GND, 54 GND, 55 GND, 56 GND
text: TOP; BOT

## PHJ8X4_2
designator P?
pins: 1, 2, 3, 4, 5, 6, 7, 8, 9, 10, 11, 12, 13, 14, 15, 16, 17, 18, 19, 20, 21, 22, 23, 24, 25, 26, 27, 28, 29, 30, 31, 32, 33, 34

## PHONEJACK_0
designator J?
pins: 1, 2, 3

## PHONEJACK_1
designator J?
pins: 1, 2, 3

## R
designator R?
pins: 1, 2

## R1.8K_1%_S0603
designator R?, comment 1.8K_1%
PCB Footprint: R0603; SDTSourceLibName: C:\WINDOWS\TEMP\DEVICE1.LIB; P/N: 21-201-621803; V1: 1/16W; Package: R0603
footprint r0603
pins: 1, 2

## R75_1%_S0603
designator R?, comment 75_1%
PCB Footprint: R0603; V1: 1% 1/16W; P/N: 21-201-627501; SDTSourceLibName: C:\WINDOWS\TEMP\DEVICE1.LIB; Package: R0603
footprint R0603
pins: 1, 2

## R_0
designator R?, comment 1K  (value not drawn)
PARTS: 1; LEVEL: STD; PKG_TYPE: 2; DEVICE: R; PINSWAP: (A,B); OriginalSymbolOrigin: (20,30)
pins: 1 A, 2 B

## R_Dup1
designator R?
pins: 1, 2

## R_Dup2
designator R?
pins: 1, 2

## R_Dup3
designator R?
pins: 1, 2

## R_Dup4
designator R?
pins: 1, 2

## R_Dup5
designator R?
pins: 1, 2

## R_Dup6
designator R?
pins: 1, 2

## R_Generic_0
designator R?
pins: 1, 2

## R_PACK4_0
designator RA?
pins: 1 R1, 2 R2, 3 R3, 4 R4, 5 R4A, 6 R3A, 7 R2A, 8 R1A

## R_PACK4_1
designator RA?
pins: 1 R2A, 2 R1A, 3 R4A, 4 R3A, 5 R3, 6 R4, 7 R1, 8 R2

## R_PACK4_2
designator RA?
pins: 1 R1, 2 R2, 3 R3, 4 R4, 5 R5, 6 R6, 7 R7, 8 R8

## R_PACK8_0
designator RA?
pins: 1 R1, 2 R2, 3 R3, 4 R4, 5 R5, 6 R6, 7 R7, 8 R8, 9 R8A, 10 R7A, 11 R6A, 12 R5A, 13 R4A, 14 R3A, 15 R2A, 16 R1A

## R_PACK8_1
designator RA?
pins: 1 R2A, 2 R1A, 3 R4A, 4 R3A, 5 R6A, 6 R5A, 7 R8A, 8 R7A, 9 R7, 10 R8, 11 R5, 12 R6, 13 R3, 14 R4, 15 R1, 16 R2

## R_PACK8_2
designator RA?
pins: 1 R1, 2 R2, 3 R3, 4 R4, 5 R5, 6 R6, 7 R7, 8 R8, 9 R9, 10 R10, 11 R11, 12 R12, 13 R13, 14 R14, 15 R15, 16 R16

## RCA JACK 1X2_0
designator U?
footprint RCA-JACK-1X2-5P
pins: 1 S, 2 RT
text: T

## REG MP2307-1_0
designator U?, comment CAT7108
footprint SOIC-8P-EP
pins: 1 BS, 2 VIN, 3 SW, 4 GND, 5 FB, 6 COMP, 7 EN, 8 SS

## REG MP2307-1_1
designator U?, comment CAT7198
footprint SOIC-8P-EP
pins: 1 NC (in), 2 BS (in), 3 VIN (in), 4 SW (in), 5 GND (in), 6 FB (in), 7 COMP (in), 8 EN (in), 9 G (in)

## RES/0402_0
designator R?
footprint 0402
pins: 1, 2

## RES/0402_1
designator R?
footprint 0402
pins: 1, 2

## RES/0402_1_Dup1
designator R?
footprint 0402
pins: 1, 2

## RES/0402_2
designator R?
footprint 0402
pins: 1, 2

## RES/0402_3
designator R?
footprint 0402
pins: 1, 2

## RES/0402_4
designator R?
footprint 0402
pins: 1, 2

## RES/0402_7
designator R?
footprint 0402
pins: 1, 2

## RES/1206_0
designator R?
footprint 1206/0805
pins: 1, 2

## RES/1206_1
designator R?
footprint 1206/0805
pins: 1, 2

## RESISTOR_HRES_2
designator R?, comment ?K  TOLERANCE: ?%  POWER: ?W
PART_NUMBER: MCN_NO; PART_ID: MFG_NO; SYMNAME: resistor; PACK_TYPE: ?
pins: 1 POS, 2 NEG

## RJ45X1_4
designator CN?
pins: 1 A1, 2 A2, 3 A3, 4 A4, 5 A5, 6 A6, 7 A7, 8 A8, 9 Case1, 10 Case2
text: RJ45 * 1P

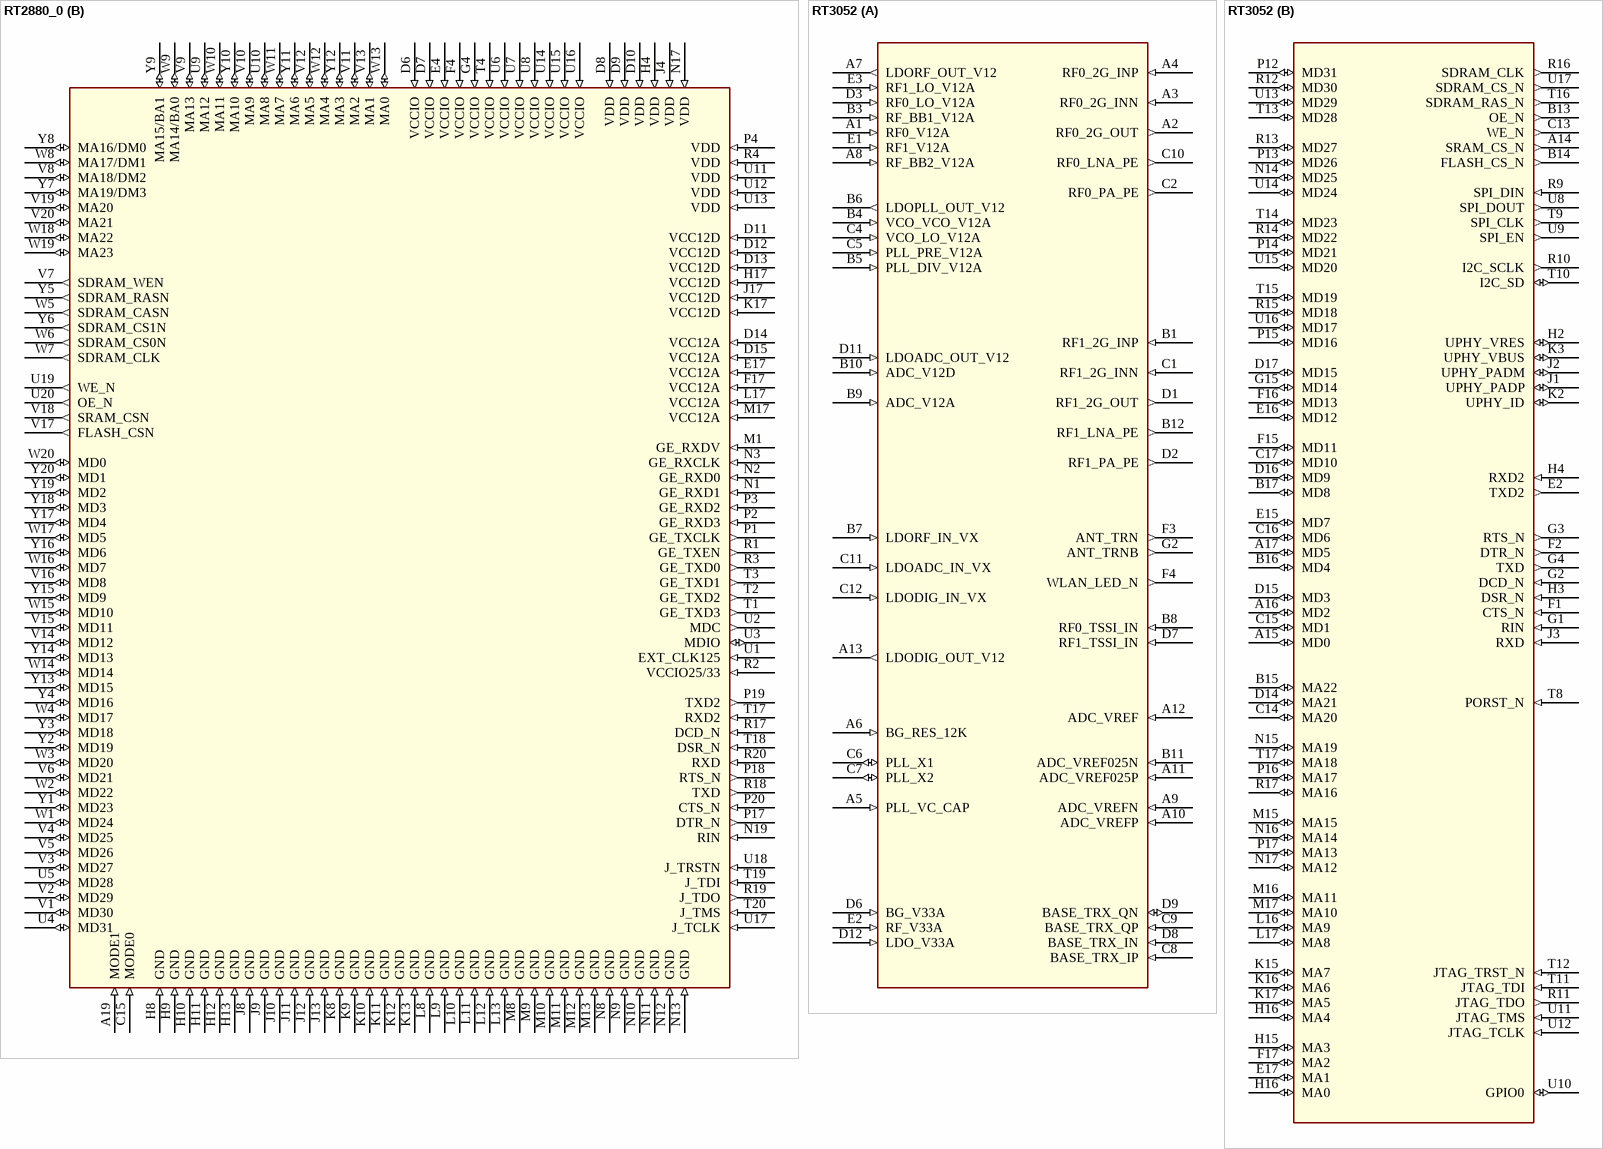
[diagram p12: symbols RT2880_0 to RT3052]

## RT2880_0
designator U?
footprint BGA-292P-17X17
part A pins: A1 CBE2_N (io), A2 AD16 (io), A3 AD20 (io), A4 AD27 (io), A5 AD28 (io), A6 AD29 (io), A7 GNT2_N (out), A8 AD23 (io), A9 AD21 (io), A10 LED_RDYA_N (out), A11 RADIO_PE (out), A12 LNA_PE_G1 (out), A13 PA_PE_A1 (out), A14 PA_PE_G1 (out), A15 LNA_PE_G0 (out), A16 PA_PE_A0 (out), A17 PA_PE_G0 (out), A18 SEL_5G_N (out), A20 PORST_N (in), B1 IRDY_N (io), B2 FRAME_N (io), B3 AD19 (io), B4 AD31 (io), B5 RST_N (io), B6 REQ1_N (io), B7 AD30 (io), B8 CBE3_N (io), B9 IDSEL (in), B10 LED_RDYG_N (out), B11 LED_ACT_N (out), B12 LNA_PE_A1 (out), B13 VREF (out), B14 VDD33 (in), B15 RF_PE (out), B16 TR_SW0 (out), B17 TR_SWN0 (out), B18 SEL_5G_P (out), B19 RFTXQ_N0 (out), B20 RFTXI_N0 (out), C1 SERR_N (out), C2 STOP_N (io), C3 AD18 (io), C4 GNT1_N (io), C5 PCICLK (io), C6 INTA_N (io), C7 AD22 (io), C8 AD26 (io), C9 LNA_PE_A0 (out), C10 PLLAHVDD (in), C11 PLLDVDD (in), C12 VREF025N (out), C13 VREF025P (out), C14 CLK_40M (in), C16 RF_TR (out), C17 RFRXQ_N0 (in), C18 RFRXQ_P0 (in), C19 RFTXQ_P0 (out), C20 RFTXI_P0 (out), D1 PERR_N (io), D2 DEVSEL_N (io), D3 AD17 (io), D4 REQ2_N (in), D5 INTB_N (in), D16 VCC_RING (in), D17 IREF (in), D18 RFRXI_N0 (in), D19 RFRXQ_N2 (in), D20 RFRXI_N2 (in), E1 CBE1_N (io), E2 AD15 (io), E3 AD24 (io), E18 RFRXI_P0 (in), E19 RFRXQ_P2 (in), E20 RFRXI_P2 (in), F1 AD14 (io), F2 AD13 (io), F3 AD25 (io), F18 VREFP (out), F19 RFRXQ_N1 (in), F20 RFRXI_N1 (in), G1 AD11 (io), G2 AD10 (io), G3 PAR (io), G17 RFTXQ_P1 (out), G18 VREFN (out), G19 RFRXQ_P1 (in), G20 RFRXI_P1 (in), H1 AD9 (io), H2 AD8 (io), H3 TRDY_N (io), H18 RFTXQ_N1 (out), H19 RFTXI_N1 (out), H20 RF_SCLK (out), J1 CBE0_N (io), J2 AD6 (io), J3 AD12 (io), J18 VCC33A (in), J19 RFTXI_P1 (out), J20 RF_SD0 (out), K1 AD4 (io), K2 AD3 (io), K3 AD7 (io), K4 AD5 (io), K18 RF_SD2 (out), K19 TSSI (in), K20 GPIO0 (io), L1 AD1 (io), L2 AD2 (io), L3 AD0 (io), L4 VDD33_PLL (in), L18 RF_SD1 (out), L19 I2C_SD (io), L20 SPI_EN (out), M2 PLLDVDD_P (in), M3 PLLAHVDD_P (in), M4 PLLDVDD_C (in), M18 RF_SCSN (out), M19 SPI_CLK (out), M20 SPI_DOUT (out), N4 PLLAHVDD_C (in), N18 I2C_SCLK (out), N20 SPI_DIN (in)
part B pins: A19 MODE1 (in), C15 MODE0 (in), D6 VCCIO (in), D7 VCCIO (in), D8 VDD (in), D9 VDD (in), D10 VDD (in), D11 VCC12D (in), D12 VCC12D (in), D13 VCC12D (in), D14 VCC12A (in), D15 VCC12A (in), E4 VCCIO (in), E17 VCC12A (in), F4 VCCIO (in), F17 VCC12A (in), G4 VCCIO (in), H4 VDD (in), H8 GND (in), H9 GND (in), H10 GND (in), H11 GND (in), H12 GND (in), H13 GND (in), H17 VCC12D (in), J4 VDD (in), J8 GND (in), J9 GND (in), J10 GND (in), J11 GND (in), J12 GND (in), J13 GND (in), J17 VCC12D (in), K8 GND (in), K9 GND (in), K10 GND (in), K11 GND (in), K12 GND (in), K13 GND (in), K17 VCC12D (in), L8 GND (in), L9 GND (in), L10 GND (in), L11 GND (in), L12 GND (in), L13 GND (in), L17 VCC12A (in), M1 GE_RXDV (in), M8 GND (in), M9 GND (in), M10 GND (in), M11 GND (in), M12 GND (in), M13 GND (in), M17 VCC12A (in), N1 GE_RXD1 (in), N2 GE_RXD0 (in), N3 GE_RXCLK (in), N8 GND (in), N9 GND (in), N10 GND (in), N11 GND (in), N12 GND (in), N13 GND (in), N17 VDD (in), N19 RIN (in), P1 GE_TXCLK (out), P2 GE_RXD3 (in), P3 GE_RXD2 (in), P4 VDD (in), P17 DTR_N (out), P18 RTS_N (out), P19 TXD2 (out), P20 CTS_N (in), R1 GE_TXEN (out), R2 VCCIO25/33 (in), R3 GE_TXD0 (out), R4 VDD (in), R17 DCD_N (in), R18 TXD (out), R19 J_TDO (out), R20 RXD (in), T1 GE_TXD3 (out), T2 GE_TXD2 (out), T3 GE_TXD1 (out), T4 VCCIO (in), T17 RXD2 (in), T18 DSR_N (in), T19 J_TDI (in), T20 J_TMS (in), U1 EXT_CLK125 (in), U2 MDC (out), U3 MDIO (io), U4 MD31 (io), U5 MD28 (io), U6 VCCIO (in), U7 VCCIO (in), U8 VCCIO (in), U9 MA12 (io), U10 MA8 (io), U11 VDD (in), U12 VDD (in), U13 VDD (in), U14 VCCIO (in), U15 VCCIO (in), U16 VCCIO (in), U17 J_TCLK (in), U18 J_TRSTN (in), U19 WE_N (out), U20 OE_N (out), V1 MD30 (io), V2 MD29 (io), V3 MD27 (io), V4 MD25 (io), V5 MD26 (io), V6 MD21 (io), V7 SDRAM_WEN (out), V8 MA18/DM2 (io), V9 MA13 (io), V10 MA9 (io), V11 MA2 (io), V12 MA5 (io), V13 MA1 (io), V14 MD12 (io), V15 MD11 (io), V16 MD8 (io), V17 FLASH_CSN (out), V18 SRAM_CSN (out), V19 MA20 (io), V20 MA21 (io), W1 MD24 (io), W2 MD22 (io), W3 MD20 (io), W4 MD17 (io), W5 SDRAM_CASN (out), W6 SDRAM_CS0N (out), W7 SDRAM_CLK (out), W8 MA17/DM1 (io), W9 MA14/BA0 (io), W10 MA11 (io), W11 MA7 (io), W12 MA4 (io), W13 MA0 (io), W14 MD14 (io), W15 MD10 (io), W16 MD7 (io), W17 MD5 (io), W18 MA22 (io), W19 MA23 (io), W20 MD0 (io), Y1 MD23 (io), Y2 MD19 (io), Y3 MD18 (io), Y4 MD16 (io), Y5 SDRAM_RASN (out), Y6 SDRAM_CS1N (out), Y7 MA19/DM3 (io), Y8 MA16/DM0 (io), Y9 MA15/BA1 (io), Y10 MA10 (io), Y11 MA6 (io), Y12 MA3 (io), Y13 MD15 (io), Y14 MD13 (io), Y15 MD9 (io), Y16 MD6 (io), Y17 MD4 (io), Y18 MD3 (io), Y19 MD2 (io), Y20 MD1 (io)

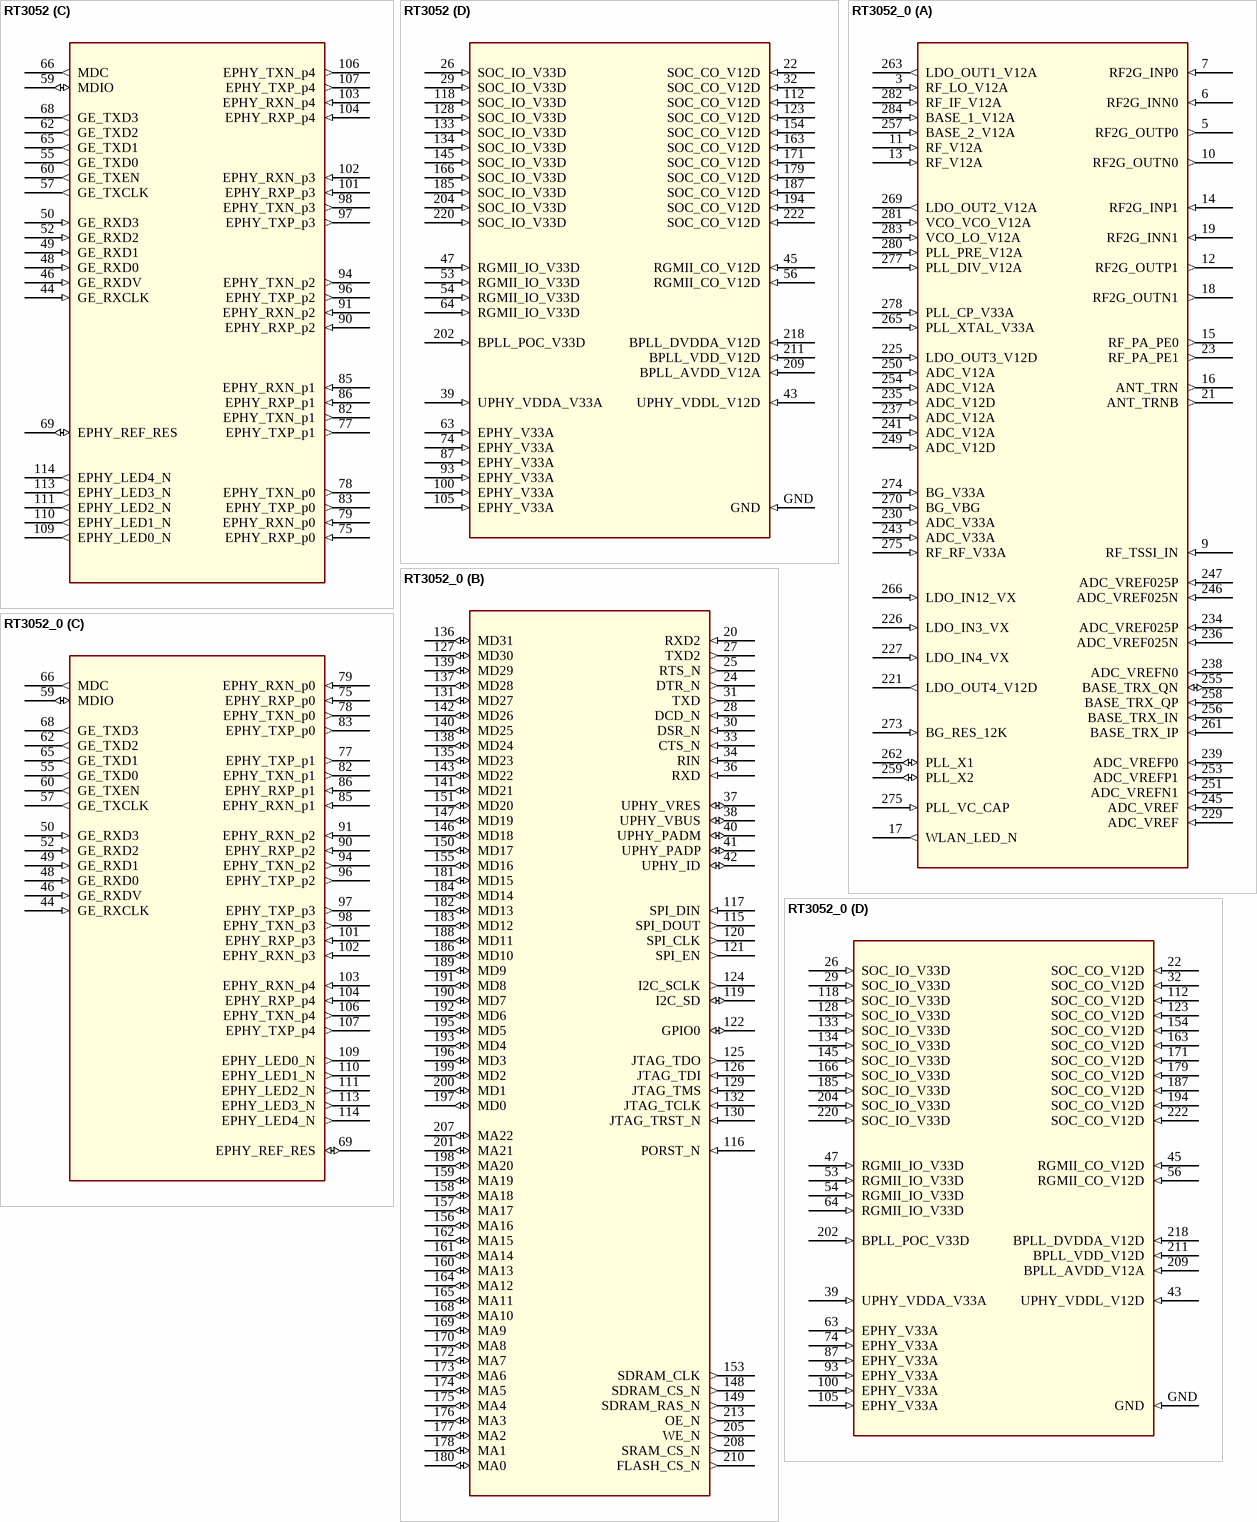
[diagram p13: symbols RT3052 to RT3052_0]